# Altium integrated library Xilinx XC9500XL.IntLib: 169 symbols (part 5 of 12)
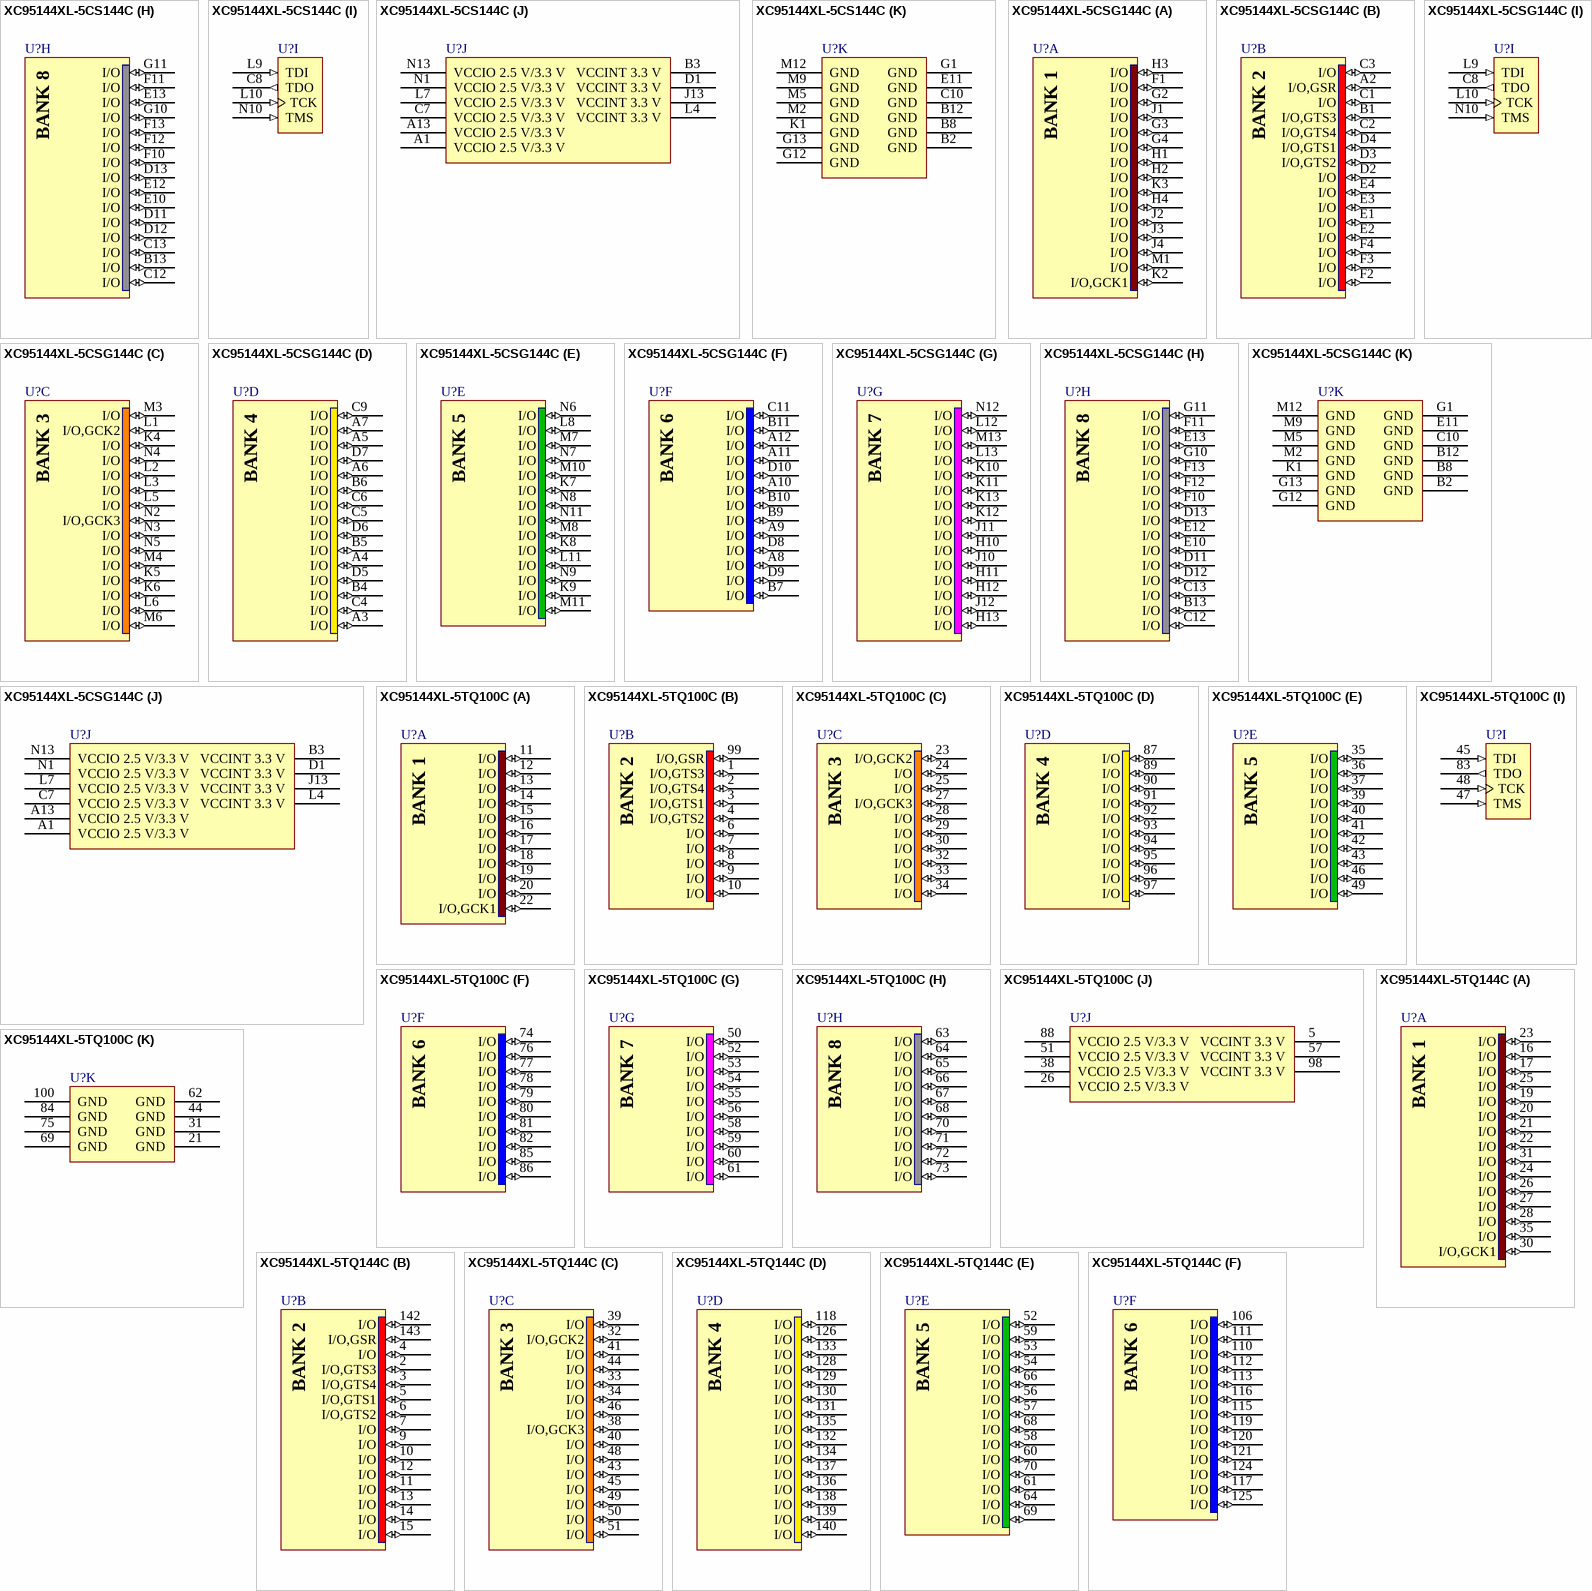
[diagram p62: symbols XC95144XL-5CS144C to XC95144XL-5TQ144C]

## XC95144XL-5CSG144C
designator U?
FastFLASH XC900XL, 3.3V High-Performance 144 Macrocell CPLD, 117 User I/Os, 144-Ball CSBGA, Speed Grade 5, Commercial Grade, Pb-Free; Published: 8-Sep-2006; LatestRevisionDate: 18-Nov-2009; LatestRevisionNote: Updated to datasheet version 2.5 May-2009.; DatasheetVersion: ver2.0, Apr-2007; PackageVersion: ver1.3, Jan-2007; PackageReference: CSG144; Publisher: Altium Limited; PackageDescription: 144-Ball Chip Scale Ball Grid Array (CSG144) - Pb-Free; Supplier 1: Digi-Key; Supplier Part Number 1: XC95144XL-5CSG144C-ND; Code_JEDEC: MO-216-BAG-2 (Depopulated); ComponentLink1Description: XC95144XL Datasheet; ComponentLink1URL: http://www.xilinx.com/support/documentation/data_sheets/ds056.pdf; ComponentLink2Description: CSG144 Package Drawing; ComponentLink2URL: http://www.xilinx.com/support/documentation/package_specs/cs144.pdf; ComponentLink3Description: XC9500XL Documents; ComponentLink3URL: http://www.xilinx.com/support/documentation/xc9500xl.htm; ComponentLink4Description: Xilinx.com Home; ComponentLink4URL: http://www.xilinx.com
footprint CSG144 (BGA, 144-Leads, Body 12x12mm, Pitch 0.8mm)
signal-integrity model XC95144XL_CS144 (XC9500XL)
part A pins: F1 I/O (io), G2 I/O (io), G3 I/O (io), G4 I/O (io), H1 I/O (io), H2 I/O (io), H3 I/O (io), H4 I/O (io), J1 I/O (io), J2 I/O (io), J3 I/O (io), J4 I/O (io), K2 I/O,GCK1 (io), K3 I/O (io), M1 I/O (io)
part B pins: A2 I/O,GSR (io), B1 I/O,GTS3 (io), C1 I/O (io), C2 I/O,GTS4 (io), C3 I/O (io), D2 I/O (io), D3 I/O,GTS2 (io), D4 I/O,GTS1 (io), E1 I/O (io), E2 I/O (io), E3 I/O (io), E4 I/O (io), F2 I/O (io), F3 I/O (io), F4 I/O (io)
part C pins: K4 I/O (io), K5 I/O (io), K6 I/O (io), L1 I/O,GCK2 (io), L2 I/O (io), L3 I/O (io), L5 I/O (io), L6 I/O (io), M3 I/O (io), M4 I/O (io), M6 I/O (io), N2 I/O,GCK3 (io), N3 I/O (io), N4 I/O (io), N5 I/O (io)
part D pins: A3 I/O (io), A4 I/O (io), A5 I/O (io), A6 I/O (io), A7 I/O (io), B4 I/O (io), B5 I/O (io), B6 I/O (io), C4 I/O (io), C5 I/O (io), C6 I/O (io), C9 I/O (io), D5 I/O (io), D6 I/O (io), D7 I/O (io)
part E pins: K7 I/O (io), K8 I/O (io), K9 I/O (io), L8 I/O (io), L11 I/O (io), M7 I/O (io), M8 I/O (io), M10 I/O (io), M11 I/O (io), N6 I/O (io), N7 I/O (io), N8 I/O (io), N9 I/O (io), N11 I/O (io)
part F pins: A8 I/O (io), A9 I/O (io), A10 I/O (io), A11 I/O (io), A12 I/O (io), B7 I/O (io), B9 I/O (io), B10 I/O (io), B11 I/O (io), C11 I/O (io), D8 I/O (io), D9 I/O (io), D10 I/O (io)
part G pins: H10 I/O (io), H11 I/O (io), H12 I/O (io), H13 I/O (io), J10 I/O (io), J11 I/O (io), J12 I/O (io), K10 I/O (io), K11 I/O (io), K12 I/O (io), K13 I/O (io), L12 I/O (io), L13 I/O (io), M13 I/O (io), N12 I/O (io)
part H pins: B13 I/O (io), C12 I/O (io), C13 I/O (io), D11 I/O (io), D12 I/O (io), D13 I/O (io), E10 I/O (io), E12 I/O (io), E13 I/O (io), F10 I/O (io), F11 I/O (io), F12 I/O (io), F13 I/O (io), G10 I/O (io), G11 I/O (io)
part I pins: C8 TDO (out), L9 TDI (in), L10 TCK (in), N10 TMS (in)
part J pins: A1 VCCIO 2.5 V/3.3 V (power), A13 VCCIO 2.5 V/3.3 V (power), B3 VCCINT 3.3 V (power), C7 VCCIO 2.5 V/3.3 V (power), D1 VCCINT 3.3 V (power), J13 VCCINT 3.3 V (power), L4 VCCINT 3.3 V (power), L7 VCCIO 2.5 V/3.3 V (power), N1 VCCIO 2.5 V/3.3 V (power), N13 VCCIO 2.5 V/3.3 V (power)
part K pins: B2 GND (power), B8 GND (power), B12 GND (power), C10 GND (power), E11 GND (power), G1 GND (power), G12 GND (power), G13 GND (power), K1 GND (power), M2 GND (power), M5 GND (power), M9 GND (power), M12 GND (power)
part A text: BANK 1
part B text: BANK 2
part C text: BANK 3
part D text: BANK 4
part E text: BANK 5
part F text: BANK 6
part G text: BANK 7
part H text: BANK 8

## XC95144XL-5TQ100C
designator U?
FastFLASH XC900XL, 3.3V High-Performance 144 Macrocell CPLD, 81 User I/Os, 100-Pin TQFP, Speed Grade 5, Commercial Grade; Published: 17-Sep-2003; LatestRevisionDate: 18-Nov-2009; LatestRevisionNote: Updated to datasheet version 2.5 May-2009.; DatasheetVersion: ver2.0, Apr-2007; PackageVersion: ver1.2, Jun-2004; PackageReference: TQ100; Publisher: Altium Limited; PackageDescription: 100-Pin Thin Quad Flat Pack (TQ100); Supplier 1: Digi-Key; Supplier Part Number 1: 122-1250-ND; ComponentLink1Description: XC95144XL Datasheet; ComponentLink1URL: http://www.xilinx.com/support/documentation/data_sheets/ds056.pdf; ComponentLink2Description: TQ100 Package Drawing; ComponentLink2URL: http://www.xilinx.com/support/documentation/package_specs/tq100.pdf; ComponentLink3Description: XC9500XL Documents; ComponentLink3URL: http://www.xilinx.com/support/documentation/xc9500xl.htm; ComponentLink4Description: Xilinx.com Home; ComponentLink4URL: http://www.xilinx.com
footprint TQ100_N (Thin QFP, 100-Leads, Body 14x14mm, Pitch 0.5mm, IPC Medium Density)
footprint TQ100_L (Thin QFP, 100-Leads, Body 14x14mm, Pitch 0.5mm, IPC High Density)
footprint TQ100_M (Thin QFP, 100-Leads, Body 14x14mm, Pitch 0.5mm, IPC Low Density)
signal-integrity model XC95144XL_TQ100 (XC9500XL)
part A pins: 11 I/O (io), 12 I/O (io), 13 I/O (io), 14 I/O (io), 15 I/O (io), 16 I/O (io), 17 I/O (io), 18 I/O (io), 19 I/O (io), 20 I/O (io), 22 I/O,GCK1 (io)
part B pins: 1 I/O,GTS3 (io), 2 I/O,GTS4 (io), 3 I/O,GTS1 (io), 4 I/O,GTS2 (io), 6 I/O (io), 7 I/O (io), 8 I/O (io), 9 I/O (io), 10 I/O (io), 99 I/O,GSR (io)
part C pins: 23 I/O,GCK2 (io), 24 I/O (io), 25 I/O (io), 27 I/O,GCK3 (io), 28 I/O (io), 29 I/O (io), 30 I/O (io), 32 I/O (io), 33 I/O (io), 34 I/O (io)
part D pins: 87 I/O (io), 89 I/O (io), 90 I/O (io), 91 I/O (io), 92 I/O (io), 93 I/O (io), 94 I/O (io), 95 I/O (io), 96 I/O (io), 97 I/O (io)
part E pins: 35 I/O (io), 36 I/O (io), 37 I/O (io), 39 I/O (io), 40 I/O (io), 41 I/O (io), 42 I/O (io), 43 I/O (io), 46 I/O (io), 49 I/O (io)
part F pins: 74 I/O (io), 76 I/O (io), 77 I/O (io), 78 I/O (io), 79 I/O (io), 80 I/O (io), 81 I/O (io), 82 I/O (io), 85 I/O (io), 86 I/O (io)
part G pins: 50 I/O (io), 52 I/O (io), 53 I/O (io), 54 I/O (io), 55 I/O (io), 56 I/O (io), 58 I/O (io), 59 I/O (io), 60 I/O (io), 61 I/O (io)
part H pins: 63 I/O (io), 64 I/O (io), 65 I/O (io), 66 I/O (io), 67 I/O (io), 68 I/O (io), 70 I/O (io), 71 I/O (io), 72 I/O (io), 73 I/O (io)
part I pins: 45 TDI (in), 47 TMS (in), 48 TCK (in), 83 TDO (out)
part J pins: 5 VCCINT 3.3 V (power), 26 VCCIO 2.5 V/3.3 V (power), 38 VCCIO 2.5 V/3.3 V (power), 51 VCCIO 2.5 V/3.3 V (power), 57 VCCINT 3.3 V (power), 88 VCCIO 2.5 V/3.3 V (power), 98 VCCINT 3.3 V (power)
part K pins: 21 GND (power), 31 GND (power), 44 GND (power), 62 GND (power), 69 GND (power), 75 GND (power), 84 GND (power), 100 GND (power)
part A text: BANK 1
part B text: BANK 2
part C text: BANK 3
part D text: BANK 4
part E text: BANK 5
part F text: BANK 6
part G text: BANK 7
part H text: BANK 8

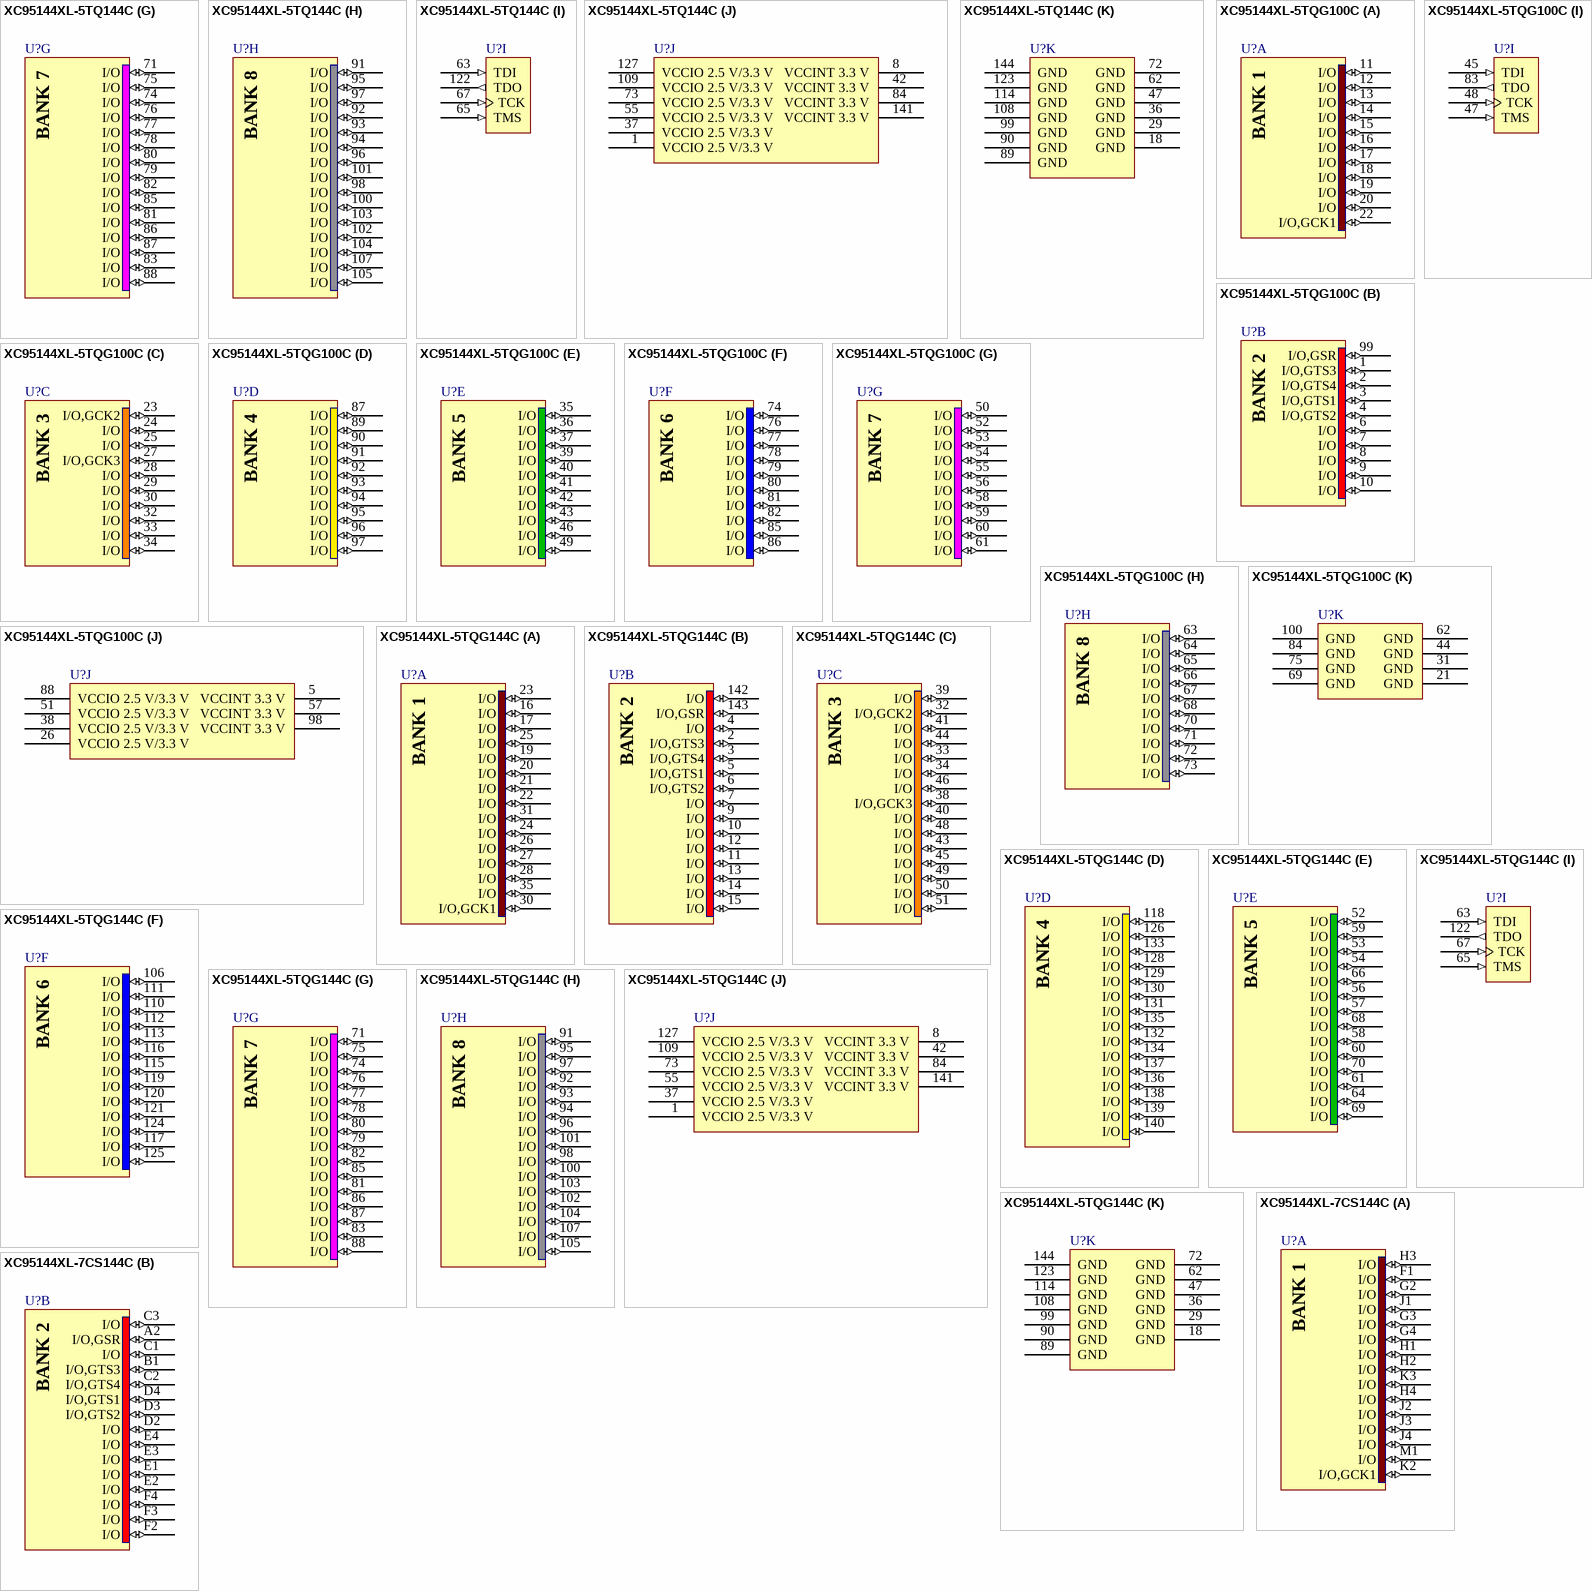
[diagram p20: symbols XC95144XL-5TQ144C to XC95144XL-7CS144C]

## XC95144XL-5TQ144C
designator U?
FastFLASH XC900XL, 3.3V High-Performance 144 Macrocell CPLD, 117 User I/Os, 144-Pin TQFP, Speed Grade 5, Commercial Grade; Published: 17-Sep-2003; LatestRevisionDate: 18-Nov-2009; LatestRevisionNote: Updated to datasheet version 2.5 May-2009.; DatasheetVersion: ver2.0, Apr-2007; PackageVersion: ver1.2, Jun-2004; PackageReference: TQ144; Publisher: Altium Limited; PackageDescription: 144-Pin Thin Quad Flat Pack (TQ144); Supplier 1: Digi-Key; Supplier Part Number 1: 122-1251-ND; Code_JEDEC: MS-026-BFB; ComponentLink1Description: XC95144XL Datasheet; ComponentLink1URL: http://www.xilinx.com/support/documentation/data_sheets/ds056.pdf; ComponentLink2Description: TQ144 Package Drawing; ComponentLink2URL: http://www.xilinx.com/support/documentation/package_specs/tq144.pdf; ComponentLink3Description: XC9500XL Documents; ComponentLink3URL: http://www.xilinx.com/support/documentation/xc9500xl.htm; ComponentLink4Description: Xilinx.com Home; ComponentLink4URL: http://www.xilinx.com
footprint TQ144_N (Thin QFP, 144-Leads, Body 20x20mm, Pitch 0.5mm, IPC Medium Density)
footprint TQ144_L (Thin QFP, 144-Leads, Body 20x20mm, Pitch 0.5mm, IPC High Density)
footprint TQ144_M (Thin QFP, 144-Leads, Body 20x20mm, Pitch 0.5mm, IPC Low Density)
signal-integrity model XC95144XL_TQ144 (XC9500XL)
part A pins: 16 I/O (io), 17 I/O (io), 19 I/O (io), 20 I/O (io), 21 I/O (io), 22 I/O (io), 23 I/O (io), 24 I/O (io), 25 I/O (io), 26 I/O (io), 27 I/O (io), 28 I/O (io), 30 I/O,GCK1 (io), 31 I/O (io), 35 I/O (io)
part B pins: 2 I/O,GTS3 (io), 3 I/O,GTS4 (io), 4 I/O (io), 5 I/O,GTS1 (io), 6 I/O,GTS2 (io), 7 I/O (io), 9 I/O (io), 10 I/O (io), 11 I/O (io), 12 I/O (io), 13 I/O (io), 14 I/O (io), 15 I/O (io), 142 I/O (io), 143 I/O,GSR (io)
part C pins: 32 I/O,GCK2 (io), 33 I/O (io), 34 I/O (io), 38 I/O,GCK3 (io), 39 I/O (io), 40 I/O (io), 41 I/O (io), 43 I/O (io), 44 I/O (io), 45 I/O (io), 46 I/O (io), 48 I/O (io), 49 I/O (io), 50 I/O (io), 51 I/O (io)
part D pins: 118 I/O (io), 126 I/O (io), 128 I/O (io), 129 I/O (io), 130 I/O (io), 131 I/O (io), 132 I/O (io), 133 I/O (io), 134 I/O (io), 135 I/O (io), 136 I/O (io), 137 I/O (io), 138 I/O (io), 139 I/O (io), 140 I/O (io)
part E pins: 52 I/O (io), 53 I/O (io), 54 I/O (io), 56 I/O (io), 57 I/O (io), 58 I/O (io), 59 I/O (io), 60 I/O (io), 61 I/O (io), 64 I/O (io), 66 I/O (io), 68 I/O (io), 69 I/O (io), 70 I/O (io)
part F pins: 106 I/O (io), 110 I/O (io), 111 I/O (io), 112 I/O (io), 113 I/O (io), 115 I/O (io), 116 I/O (io), 117 I/O (io), 119 I/O (io), 120 I/O (io), 121 I/O (io), 124 I/O (io), 125 I/O (io)
part G pins: 71 I/O (io), 74 I/O (io), 75 I/O (io), 76 I/O (io), 77 I/O (io), 78 I/O (io), 79 I/O (io), 80 I/O (io), 81 I/O (io), 82 I/O (io), 83 I/O (io), 85 I/O (io), 86 I/O (io), 87 I/O (io), 88 I/O (io)
part H pins: 91 I/O (io), 92 I/O (io), 93 I/O (io), 94 I/O (io), 95 I/O (io), 96 I/O (io), 97 I/O (io), 98 I/O (io), 100 I/O (io), 101 I/O (io), 102 I/O (io), 103 I/O (io), 104 I/O (io), 105 I/O (io), 107 I/O (io)
part I pins: 63 TDI (in), 65 TMS (in), 67 TCK (in), 122 TDO (out)
part J pins: 1 VCCIO 2.5 V/3.3 V (power), 8 VCCINT 3.3 V (power), 37 VCCIO 2.5 V/3.3 V (power), 42 VCCINT 3.3 V (power), 55 VCCIO 2.5 V/3.3 V (power), 73 VCCIO 2.5 V/3.3 V (power), 84 VCCINT 3.3 V (power), 109 VCCIO 2.5 V/3.3 V (power), 127 VCCIO 2.5 V/3.3 V (power), 141 VCCINT 3.3 V (power)
part K pins: 18 GND (power), 29 GND (power), 36 GND (power), 47 GND (power), 62 GND (power), 72 GND (power), 89 GND (power), 90 GND (power), 99 GND (power), 108 GND (power), 114 GND (power), 123 GND (power), 144 GND (power)
part A text: BANK 1
part B text: BANK 2
part C text: BANK 3
part D text: BANK 4
part E text: BANK 5
part F text: BANK 6
part G text: BANK 7
part H text: BANK 8

## XC95144XL-5TQG100C
designator U?
FastFLASH XC900XL, 3.3V High-Performance 144 Macrocell CPLD, 81 User I/Os, 100-Pin TQFP, Speed Grade 5, Commercial Grade, Pb-Free; Published: 8-Sep-2006; LatestRevisionDate: 18-Nov-2009; LatestRevisionNote: Updated to datasheet version 2.5 May-2009.; DatasheetVersion: ver2.0, Apr-2007; PackageVersion: ver1.2, Jun-2004; PackageReference: TQG100; Publisher: Altium Limited; PackageDescription: 100-Pin Thin Quad Flat Pack (TQG100) - Pb-Free; Supplier 1: Digi-Key; Supplier Part Number 1: 122-1376-ND; ComponentLink1Description: XC95144XL Datasheet; ComponentLink1URL: http://www.xilinx.com/support/documentation/data_sheets/ds056.pdf; ComponentLink2Description: TQG100 Package Drawing; ComponentLink2URL: http://www.xilinx.com/support/documentation/package_specs/tq100.pdf; ComponentLink3Description: XC9500XL Documents; ComponentLink3URL: http://www.xilinx.com/support/documentation/xc9500xl.htm; ComponentLink4Description: Xilinx.com Home; ComponentLink4URL: http://www.xilinx.com
footprint TQG100_N (Thin QFP, 100-Leads, Body 14x14mm, Pitch 0.5mm, IPC Medium Density)
footprint TQG100_L (Thin QFP, 100-Leads, Body 14x14mm, Pitch 0.5mm, IPC High Density)
footprint TQG100_M (Thin QFP, 100-Leads, Body 14x14mm, Pitch 0.5mm, IPC Low Density)
signal-integrity model XC95144XL_TQ100 (XC9500XL)
part A pins: 11 I/O (io), 12 I/O (io), 13 I/O (io), 14 I/O (io), 15 I/O (io), 16 I/O (io), 17 I/O (io), 18 I/O (io), 19 I/O (io), 20 I/O (io), 22 I/O,GCK1 (io)
part B pins: 1 I/O,GTS3 (io), 2 I/O,GTS4 (io), 3 I/O,GTS1 (io), 4 I/O,GTS2 (io), 6 I/O (io), 7 I/O (io), 8 I/O (io), 9 I/O (io), 10 I/O (io), 99 I/O,GSR (io)
part C pins: 23 I/O,GCK2 (io), 24 I/O (io), 25 I/O (io), 27 I/O,GCK3 (io), 28 I/O (io), 29 I/O (io), 30 I/O (io), 32 I/O (io), 33 I/O (io), 34 I/O (io)
part D pins: 87 I/O (io), 89 I/O (io), 90 I/O (io), 91 I/O (io), 92 I/O (io), 93 I/O (io), 94 I/O (io), 95 I/O (io), 96 I/O (io), 97 I/O (io)
part E pins: 35 I/O (io), 36 I/O (io), 37 I/O (io), 39 I/O (io), 40 I/O (io), 41 I/O (io), 42 I/O (io), 43 I/O (io), 46 I/O (io), 49 I/O (io)
part F pins: 74 I/O (io), 76 I/O (io), 77 I/O (io), 78 I/O (io), 79 I/O (io), 80 I/O (io), 81 I/O (io), 82 I/O (io), 85 I/O (io), 86 I/O (io)
part G pins: 50 I/O (io), 52 I/O (io), 53 I/O (io), 54 I/O (io), 55 I/O (io), 56 I/O (io), 58 I/O (io), 59 I/O (io), 60 I/O (io), 61 I/O (io)
part H pins: 63 I/O (io), 64 I/O (io), 65 I/O (io), 66 I/O (io), 67 I/O (io), 68 I/O (io), 70 I/O (io), 71 I/O (io), 72 I/O (io), 73 I/O (io)
part I pins: 45 TDI (in), 47 TMS (in), 48 TCK (in), 83 TDO (out)
part J pins: 5 VCCINT 3.3 V (power), 26 VCCIO 2.5 V/3.3 V (power), 38 VCCIO 2.5 V/3.3 V (power), 51 VCCIO 2.5 V/3.3 V (power), 57 VCCINT 3.3 V (power), 88 VCCIO 2.5 V/3.3 V (power), 98 VCCINT 3.3 V (power)
part K pins: 21 GND (power), 31 GND (power), 44 GND (power), 62 GND (power), 69 GND (power), 75 GND (power), 84 GND (power), 100 GND (power)
part A text: BANK 1
part B text: BANK 2
part C text: BANK 3
part D text: BANK 4
part E text: BANK 5
part F text: BANK 6
part G text: BANK 7
part H text: BANK 8

## XC95144XL-5TQG144C
designator U?
FastFLASH XC900XL, 3.3V High-Performance 144 Macrocell CPLD, 117 User I/Os, 144-Pin TQFP, Speed Grade 5, Commercial Grade, Pb-Free; Published: 8-Sep-2006; LatestRevisionDate: 18-Nov-2009; LatestRevisionNote: Updated to datasheet version 2.5 May-2009.; DatasheetVersion: ver2.0, Apr-2007; PackageVersion: ver1.2, Jun-2004; PackageReference: TQG144; Publisher: Altium Limited; PackageDescription: 144-Pin Thin Quad Flat Pack (TQG144) - Pb-Free; Supplier 1: Digi-Key; Supplier Part Number 1: 122-1377-ND; Code_JEDEC: MS-026-BFB; ComponentLink1Description: XC95144XL Datasheet; ComponentLink1URL: http://www.xilinx.com/support/documentation/data_sheets/ds056.pdf; ComponentLink2Description: TQG144 Package Drawing; ComponentLink2URL: http://www.xilinx.com/support/documentation/package_specs/tq144.pdf; ComponentLink3Description: XC9500XL Documents; ComponentLink3URL: http://www.xilinx.com/support/documentation/xc9500xl.htm; ComponentLink4Description: Xilinx.com Home; ComponentLink4URL: http://www.xilinx.com
footprint TQG144_N (Thin QFP, 144-Leads, Body 20x20mm, Pitch 0.5mm, IPC Medium Density)
footprint TQG144_L (Thin QFP, 144-Leads, Body 20x20mm, Pitch 0.5mm, IPC High Density)
footprint TQG144_M (Thin QFP, 144-Leads, Body 20x20mm, Pitch 0.5mm, IPC Low Density)
signal-integrity model XC95144XL_TQ144 (XC9500XL)
part A pins: 16 I/O (io), 17 I/O (io), 19 I/O (io), 20 I/O (io), 21 I/O (io), 22 I/O (io), 23 I/O (io), 24 I/O (io), 25 I/O (io), 26 I/O (io), 27 I/O (io), 28 I/O (io), 30 I/O,GCK1 (io), 31 I/O (io), 35 I/O (io)
part B pins: 2 I/O,GTS3 (io), 3 I/O,GTS4 (io), 4 I/O (io), 5 I/O,GTS1 (io), 6 I/O,GTS2 (io), 7 I/O (io), 9 I/O (io), 10 I/O (io), 11 I/O (io), 12 I/O (io), 13 I/O (io), 14 I/O (io), 15 I/O (io), 142 I/O (io), 143 I/O,GSR (io)
part C pins: 32 I/O,GCK2 (io), 33 I/O (io), 34 I/O (io), 38 I/O,GCK3 (io), 39 I/O (io), 40 I/O (io), 41 I/O (io), 43 I/O (io), 44 I/O (io), 45 I/O (io), 46 I/O (io), 48 I/O (io), 49 I/O (io), 50 I/O (io), 51 I/O (io)
part D pins: 118 I/O (io), 126 I/O (io), 128 I/O (io), 129 I/O (io), 130 I/O (io), 131 I/O (io), 132 I/O (io), 133 I/O (io), 134 I/O (io), 135 I/O (io), 136 I/O (io), 137 I/O (io), 138 I/O (io), 139 I/O (io), 140 I/O (io)
part E pins: 52 I/O (io), 53 I/O (io), 54 I/O (io), 56 I/O (io), 57 I/O (io), 58 I/O (io), 59 I/O (io), 60 I/O (io), 61 I/O (io), 64 I/O (io), 66 I/O (io), 68 I/O (io), 69 I/O (io), 70 I/O (io)
part F pins: 106 I/O (io), 110 I/O (io), 111 I/O (io), 112 I/O (io), 113 I/O (io), 115 I/O (io), 116 I/O (io), 117 I/O (io), 119 I/O (io), 120 I/O (io), 121 I/O (io), 124 I/O (io), 125 I/O (io)
part G pins: 71 I/O (io), 74 I/O (io), 75 I/O (io), 76 I/O (io), 77 I/O (io), 78 I/O (io), 79 I/O (io), 80 I/O (io), 81 I/O (io), 82 I/O (io), 83 I/O (io), 85 I/O (io), 86 I/O (io), 87 I/O (io), 88 I/O (io)
part H pins: 91 I/O (io), 92 I/O (io), 93 I/O (io), 94 I/O (io), 95 I/O (io), 96 I/O (io), 97 I/O (io), 98 I/O (io), 100 I/O (io), 101 I/O (io), 102 I/O (io), 103 I/O (io), 104 I/O (io), 105 I/O (io), 107 I/O (io)
part I pins: 63 TDI (in), 65 TMS (in), 67 TCK (in), 122 TDO (out)
part J pins: 1 VCCIO 2.5 V/3.3 V (power), 8 VCCINT 3.3 V (power), 37 VCCIO 2.5 V/3.3 V (power), 42 VCCINT 3.3 V (power), 55 VCCIO 2.5 V/3.3 V (power), 73 VCCIO 2.5 V/3.3 V (power), 84 VCCINT 3.3 V (power), 109 VCCIO 2.5 V/3.3 V (power), 127 VCCIO 2.5 V/3.3 V (power), 141 VCCINT 3.3 V (power)
part K pins: 18 GND (power), 29 GND (power), 36 GND (power), 47 GND (power), 62 GND (power), 72 GND (power), 89 GND (power), 90 GND (power), 99 GND (power), 108 GND (power), 114 GND (power), 123 GND (power), 144 GND (power)
part A text: BANK 1
part B text: BANK 2
part C text: BANK 3
part D text: BANK 4
part E text: BANK 5
part F text: BANK 6
part G text: BANK 7
part H text: BANK 8

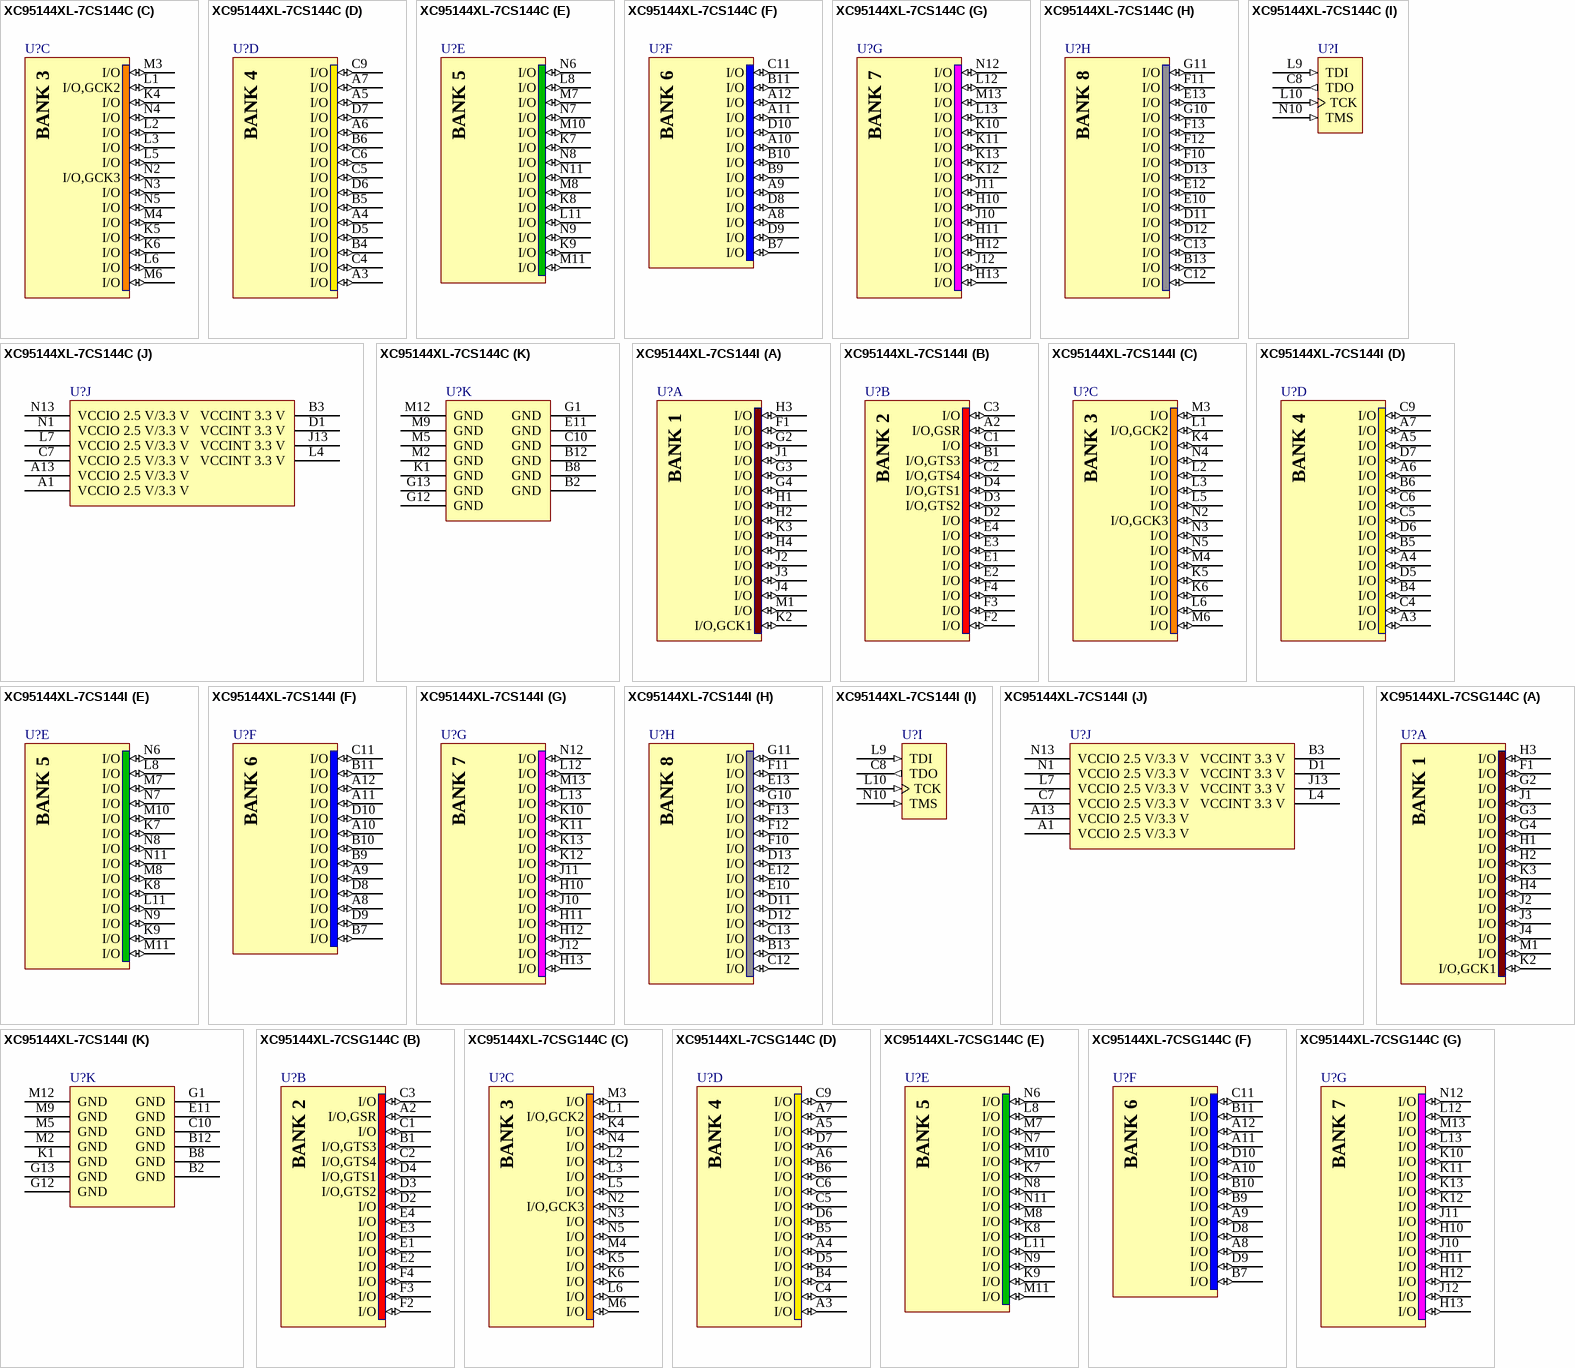
[diagram p21: symbols XC95144XL-7CS144C to XC95144XL-7CSG144C]

## XC95144XL-7CS144C
designator U?
FastFLASH XC900XL, 3.3V High-Performance 144 Macrocell CPLD, 117 User I/Os, 144-Ball CSBGA, Speed Grade 7, Commercial Grade; Published: 17-Sep-2003; LatestRevisionDate: 18-Nov-2009; LatestRevisionNote: Updated to datasheet version 2.5 May-2009.; DatasheetVersion: ver2.0, Apr-2007; PackageVersion: ver1.3, Jan-2007; PackageReference: CS144; Publisher: Altium Limited; PackageDescription: 144-Ball Chip Scale Ball Grid Array (CS144); Supplier 1: Digi-Key; Supplier Part Number 1: XC95144XL-7CS144C-ND; Code_JEDEC: MO-216-BAG-2 (Depopulated); ComponentLink1Description: XC95144XL Datasheet; ComponentLink1URL: http://www.xilinx.com/support/documentation/data_sheets/ds056.pdf; ComponentLink2Description: CS144 Package Drawing; ComponentLink2URL: http://www.xilinx.com/support/documentation/package_specs/cs144.pdf; ComponentLink3Description: XC9500XL Documents; ComponentLink3URL: http://www.xilinx.com/support/documentation/xc9500xl.htm; ComponentLink4Description: Xilinx.com Home; ComponentLink4URL: http://www.xilinx.com
footprint CS144 (BGA, 144-Leads, Body 12x12mm, Pitch 0.8mm)
signal-integrity model XC95144XL_CS144 (XC9500XL)
part A pins: F1 I/O (io), G2 I/O (io), G3 I/O (io), G4 I/O (io), H1 I/O (io), H2 I/O (io), H3 I/O (io), H4 I/O (io), J1 I/O (io), J2 I/O (io), J3 I/O (io), J4 I/O (io), K2 I/O,GCK1 (io), K3 I/O (io), M1 I/O (io)
part B pins: A2 I/O,GSR (io), B1 I/O,GTS3 (io), C1 I/O (io), C2 I/O,GTS4 (io), C3 I/O (io), D2 I/O (io), D3 I/O,GTS2 (io), D4 I/O,GTS1 (io), E1 I/O (io), E2 I/O (io), E3 I/O (io), E4 I/O (io), F2 I/O (io), F3 I/O (io), F4 I/O (io)
part C pins: K4 I/O (io), K5 I/O (io), K6 I/O (io), L1 I/O,GCK2 (io), L2 I/O (io), L3 I/O (io), L5 I/O (io), L6 I/O (io), M3 I/O (io), M4 I/O (io), M6 I/O (io), N2 I/O,GCK3 (io), N3 I/O (io), N4 I/O (io), N5 I/O (io)
part D pins: A3 I/O (io), A4 I/O (io), A5 I/O (io), A6 I/O (io), A7 I/O (io), B4 I/O (io), B5 I/O (io), B6 I/O (io), C4 I/O (io), C5 I/O (io), C6 I/O (io), C9 I/O (io), D5 I/O (io), D6 I/O (io), D7 I/O (io)
part E pins: K7 I/O (io), K8 I/O (io), K9 I/O (io), L8 I/O (io), L11 I/O (io), M7 I/O (io), M8 I/O (io), M10 I/O (io), M11 I/O (io), N6 I/O (io), N7 I/O (io), N8 I/O (io), N9 I/O (io), N11 I/O (io)
part F pins: A8 I/O (io), A9 I/O (io), A10 I/O (io), A11 I/O (io), A12 I/O (io), B7 I/O (io), B9 I/O (io), B10 I/O (io), B11 I/O (io), C11 I/O (io), D8 I/O (io), D9 I/O (io), D10 I/O (io)
part G pins: H10 I/O (io), H11 I/O (io), H12 I/O (io), H13 I/O (io), J10 I/O (io), J11 I/O (io), J12 I/O (io), K10 I/O (io), K11 I/O (io), K12 I/O (io), K13 I/O (io), L12 I/O (io), L13 I/O (io), M13 I/O (io), N12 I/O (io)
part H pins: B13 I/O (io), C12 I/O (io), C13 I/O (io), D11 I/O (io), D12 I/O (io), D13 I/O (io), E10 I/O (io), E12 I/O (io), E13 I/O (io), F10 I/O (io), F11 I/O (io), F12 I/O (io), F13 I/O (io), G10 I/O (io), G11 I/O (io)
part I pins: C8 TDO (out), L9 TDI (in), L10 TCK (in), N10 TMS (in)
part J pins: A1 VCCIO 2.5 V/3.3 V (power), A13 VCCIO 2.5 V/3.3 V (power), B3 VCCINT 3.3 V (power), C7 VCCIO 2.5 V/3.3 V (power), D1 VCCINT 3.3 V (power), J13 VCCINT 3.3 V (power), L4 VCCINT 3.3 V (power), L7 VCCIO 2.5 V/3.3 V (power), N1 VCCIO 2.5 V/3.3 V (power), N13 VCCIO 2.5 V/3.3 V (power)
part K pins: B2 GND (power), B8 GND (power), B12 GND (power), C10 GND (power), E11 GND (power), G1 GND (power), G12 GND (power), G13 GND (power), K1 GND (power), M2 GND (power), M5 GND (power), M9 GND (power), M12 GND (power)
part A text: BANK 1
part B text: BANK 2
part C text: BANK 3
part D text: BANK 4
part E text: BANK 5
part F text: BANK 6
part G text: BANK 7
part H text: BANK 8

## XC95144XL-7CS144I
designator U?
FastFLASH XC900XL, 3.3V High-Performance 144 Macrocell CPLD, 117 User I/Os, 144-Ball CSBGA, Speed Grade 7, Industrial Grade; Published: 17-Sep-2003; LatestRevisionDate: 18-Nov-2009; LatestRevisionNote: Updated to datasheet version 2.5 May-2009.; DatasheetVersion: ver2.0, Apr-2007; PackageVersion: ver1.3, Jan-2007; PackageReference: CS144; Publisher: Altium Limited; PackageDescription: 144-Ball Chip Scale Ball Grid Array (CS144); Code_JEDEC: MO-216-BAG-2 (Depopulated); ComponentLink1Description: XC95144XL Datasheet; ComponentLink1URL: http://www.xilinx.com/support/documentation/data_sheets/ds056.pdf; ComponentLink2Description: CS144 Package Drawing; ComponentLink2URL: http://www.xilinx.com/support/documentation/package_specs/cs144.pdf; ComponentLink3Description: XC9500XL Documents; ComponentLink3URL: http://www.xilinx.com/support/documentation/xc9500xl.htm; ComponentLink4Description: Xilinx.com Home; ComponentLink4URL: http://www.xilinx.com
footprint CS144 (BGA, 144-Leads, Body 12x12mm, Pitch 0.8mm)
signal-integrity model XC95144XL_CS144 (XC9500XL)
part A pins: F1 I/O (io), G2 I/O (io), G3 I/O (io), G4 I/O (io), H1 I/O (io), H2 I/O (io), H3 I/O (io), H4 I/O (io), J1 I/O (io), J2 I/O (io), J3 I/O (io), J4 I/O (io), K2 I/O,GCK1 (io), K3 I/O (io), M1 I/O (io)
part B pins: A2 I/O,GSR (io), B1 I/O,GTS3 (io), C1 I/O (io), C2 I/O,GTS4 (io), C3 I/O (io), D2 I/O (io), D3 I/O,GTS2 (io), D4 I/O,GTS1 (io), E1 I/O (io), E2 I/O (io), E3 I/O (io), E4 I/O (io), F2 I/O (io), F3 I/O (io), F4 I/O (io)
part C pins: K4 I/O (io), K5 I/O (io), K6 I/O (io), L1 I/O,GCK2 (io), L2 I/O (io), L3 I/O (io), L5 I/O (io), L6 I/O (io), M3 I/O (io), M4 I/O (io), M6 I/O (io), N2 I/O,GCK3 (io), N3 I/O (io), N4 I/O (io), N5 I/O (io)
part D pins: A3 I/O (io), A4 I/O (io), A5 I/O (io), A6 I/O (io), A7 I/O (io), B4 I/O (io), B5 I/O (io), B6 I/O (io), C4 I/O (io), C5 I/O (io), C6 I/O (io), C9 I/O (io), D5 I/O (io), D6 I/O (io), D7 I/O (io)
part E pins: K7 I/O (io), K8 I/O (io), K9 I/O (io), L8 I/O (io), L11 I/O (io), M7 I/O (io), M8 I/O (io), M10 I/O (io), M11 I/O (io), N6 I/O (io), N7 I/O (io), N8 I/O (io), N9 I/O (io), N11 I/O (io)
part F pins: A8 I/O (io), A9 I/O (io), A10 I/O (io), A11 I/O (io), A12 I/O (io), B7 I/O (io), B9 I/O (io), B10 I/O (io), B11 I/O (io), C11 I/O (io), D8 I/O (io), D9 I/O (io), D10 I/O (io)
part G pins: H10 I/O (io), H11 I/O (io), H12 I/O (io), H13 I/O (io), J10 I/O (io), J11 I/O (io), J12 I/O (io), K10 I/O (io), K11 I/O (io), K12 I/O (io), K13 I/O (io), L12 I/O (io), L13 I/O (io), M13 I/O (io), N12 I/O (io)
part H pins: B13 I/O (io), C12 I/O (io), C13 I/O (io), D11 I/O (io), D12 I/O (io), D13 I/O (io), E10 I/O (io), E12 I/O (io), E13 I/O (io), F10 I/O (io), F11 I/O (io), F12 I/O (io), F13 I/O (io), G10 I/O (io), G11 I/O (io)
part I pins: C8 TDO (out), L9 TDI (in), L10 TCK (in), N10 TMS (in)
part J pins: A1 VCCIO 2.5 V/3.3 V (power), A13 VCCIO 2.5 V/3.3 V (power), B3 VCCINT 3.3 V (power), C7 VCCIO 2.5 V/3.3 V (power), D1 VCCINT 3.3 V (power), J13 VCCINT 3.3 V (power), L4 VCCINT 3.3 V (power), L7 VCCIO 2.5 V/3.3 V (power), N1 VCCIO 2.5 V/3.3 V (power), N13 VCCIO 2.5 V/3.3 V (power)
part K pins: B2 GND (power), B8 GND (power), B12 GND (power), C10 GND (power), E11 GND (power), G1 GND (power), G12 GND (power), G13 GND (power), K1 GND (power), M2 GND (power), M5 GND (power), M9 GND (power), M12 GND (power)
part A text: BANK 1
part B text: BANK 2
part C text: BANK 3
part D text: BANK 4
part E text: BANK 5
part F text: BANK 6
part G text: BANK 7
part H text: BANK 8

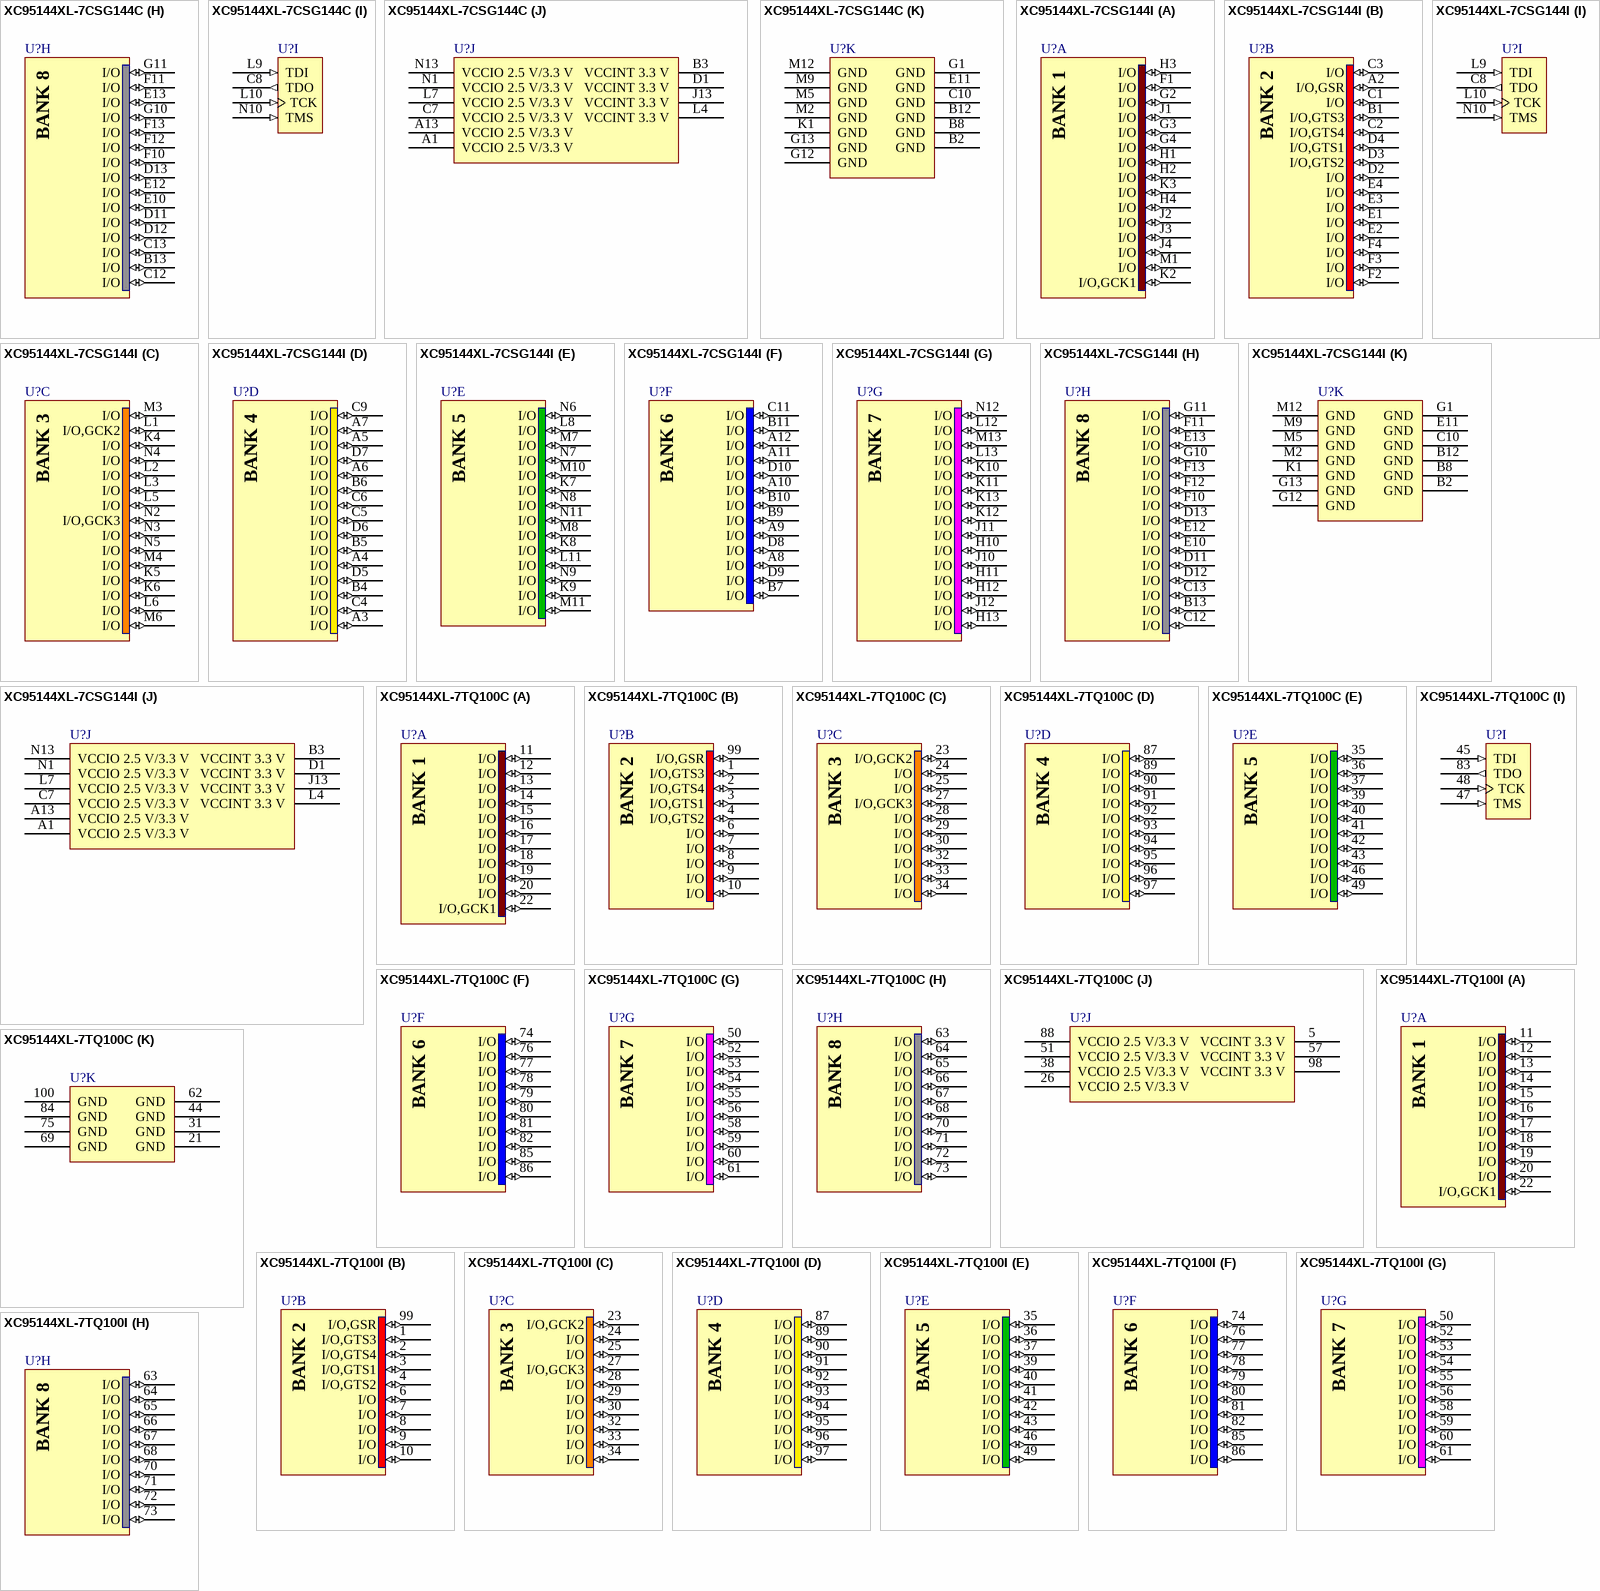
[diagram p22: symbols XC95144XL-7CSG144C to XC95144XL-7TQ100I]

## XC95144XL-7CSG144C
designator U?
FastFLASH XC900XL, 3.3V High-Performance 144 Macrocell CPLD, 117 User I/Os, 144-Ball CSBGA, Speed Grade 7, Commercial Grade, Pb-Free; Published: 8-Sep-2006; LatestRevisionDate: 18-Nov-2009; LatestRevisionNote: Updated to datasheet version 2.5 May-2009.; DatasheetVersion: ver2.0, Apr-2007; PackageVersion: ver1.3, Jan-2007; PackageReference: CSG144; Publisher: Altium Limited; PackageDescription: 144-Ball Chip Scale Ball Grid Array (CSG144) - Pb-Free; Supplier 1: Digi-Key; Supplier Part Number 1: XC95144XL-7CSG144C-ND; Code_JEDEC: MO-216-BAG-2 (Depopulated); ComponentLink1Description: XC95144XL Datasheet; ComponentLink1URL: http://www.xilinx.com/support/documentation/data_sheets/ds056.pdf; ComponentLink2Description: CSG144 Package Drawing; ComponentLink2URL: http://www.xilinx.com/support/documentation/package_specs/cs144.pdf; ComponentLink3Description: XC9500XL Documents; ComponentLink3URL: http://www.xilinx.com/support/documentation/xc9500xl.htm; ComponentLink4Description: Xilinx.com Home; ComponentLink4URL: http://www.xilinx.com
footprint CSG144 (BGA, 144-Leads, Body 12x12mm, Pitch 0.8mm)
signal-integrity model XC95144XL_CS144 (XC9500XL)
part A pins: F1 I/O (io), G2 I/O (io), G3 I/O (io), G4 I/O (io), H1 I/O (io), H2 I/O (io), H3 I/O (io), H4 I/O (io), J1 I/O (io), J2 I/O (io), J3 I/O (io), J4 I/O (io), K2 I/O,GCK1 (io), K3 I/O (io), M1 I/O (io)
part B pins: A2 I/O,GSR (io), B1 I/O,GTS3 (io), C1 I/O (io), C2 I/O,GTS4 (io), C3 I/O (io), D2 I/O (io), D3 I/O,GTS2 (io), D4 I/O,GTS1 (io), E1 I/O (io), E2 I/O (io), E3 I/O (io), E4 I/O (io), F2 I/O (io), F3 I/O (io), F4 I/O (io)
part C pins: K4 I/O (io), K5 I/O (io), K6 I/O (io), L1 I/O,GCK2 (io), L2 I/O (io), L3 I/O (io), L5 I/O (io), L6 I/O (io), M3 I/O (io), M4 I/O (io), M6 I/O (io), N2 I/O,GCK3 (io), N3 I/O (io), N4 I/O (io), N5 I/O (io)
part D pins: A3 I/O (io), A4 I/O (io), A5 I/O (io), A6 I/O (io), A7 I/O (io), B4 I/O (io), B5 I/O (io), B6 I/O (io), C4 I/O (io), C5 I/O (io), C6 I/O (io), C9 I/O (io), D5 I/O (io), D6 I/O (io), D7 I/O (io)
part E pins: K7 I/O (io), K8 I/O (io), K9 I/O (io), L8 I/O (io), L11 I/O (io), M7 I/O (io), M8 I/O (io), M10 I/O (io), M11 I/O (io), N6 I/O (io), N7 I/O (io), N8 I/O (io), N9 I/O (io), N11 I/O (io)
part F pins: A8 I/O (io), A9 I/O (io), A10 I/O (io), A11 I/O (io), A12 I/O (io), B7 I/O (io), B9 I/O (io), B10 I/O (io), B11 I/O (io), C11 I/O (io), D8 I/O (io), D9 I/O (io), D10 I/O (io)
part G pins: H10 I/O (io), H11 I/O (io), H12 I/O (io), H13 I/O (io), J10 I/O (io), J11 I/O (io), J12 I/O (io), K10 I/O (io), K11 I/O (io), K12 I/O (io), K13 I/O (io), L12 I/O (io), L13 I/O (io), M13 I/O (io), N12 I/O (io)
part H pins: B13 I/O (io), C12 I/O (io), C13 I/O (io), D11 I/O (io), D12 I/O (io), D13 I/O (io), E10 I/O (io), E12 I/O (io), E13 I/O (io), F10 I/O (io), F11 I/O (io), F12 I/O (io), F13 I/O (io), G10 I/O (io), G11 I/O (io)
part I pins: C8 TDO (out), L9 TDI (in), L10 TCK (in), N10 TMS (in)
part J pins: A1 VCCIO 2.5 V/3.3 V (power), A13 VCCIO 2.5 V/3.3 V (power), B3 VCCINT 3.3 V (power), C7 VCCIO 2.5 V/3.3 V (power), D1 VCCINT 3.3 V (power), J13 VCCINT 3.3 V (power), L4 VCCINT 3.3 V (power), L7 VCCIO 2.5 V/3.3 V (power), N1 VCCIO 2.5 V/3.3 V (power), N13 VCCIO 2.5 V/3.3 V (power)
part K pins: B2 GND (power), B8 GND (power), B12 GND (power), C10 GND (power), E11 GND (power), G1 GND (power), G12 GND (power), G13 GND (power), K1 GND (power), M2 GND (power), M5 GND (power), M9 GND (power), M12 GND (power)
part A text: BANK 1
part B text: BANK 2
part C text: BANK 3
part D text: BANK 4
part E text: BANK 5
part F text: BANK 6
part G text: BANK 7
part H text: BANK 8

## XC95144XL-7CSG144I
designator U?
FastFLASH XC900XL, 3.3V High-Performance 144 Macrocell CPLD, 117 User I/Os, 144-Ball CSBGA, Speed Grade 7, Industrial Grade, Pb-Free; Published: 8-Sep-2006; LatestRevisionDate: 18-Nov-2009; LatestRevisionNote: Updated to datasheet version 2.5 May-2009.; DatasheetVersion: ver2.0, Apr-2007; PackageVersion: ver1.3, Jan-2007; PackageReference: CSG144; Publisher: Altium Limited; PackageDescription: 144-Ball Chip Scale Ball Grid Array (CSG144) - Pb-Free; Supplier 1: Digi-Key; Supplier Part Number 1: XC95144XL-7CSG144I-ND; Code_JEDEC: MO-216-BAG-2 (Depopulated); ComponentLink1Description: XC95144XL Datasheet; ComponentLink1URL: http://www.xilinx.com/support/documentation/data_sheets/ds056.pdf; ComponentLink2Description: CSG144 Package Drawing; ComponentLink2URL: http://www.xilinx.com/support/documentation/package_specs/cs144.pdf; ComponentLink3Description: XC9500XL Documents; ComponentLink3URL: http://www.xilinx.com/support/documentation/xc9500xl.htm; ComponentLink4Description: Xilinx.com Home; ComponentLink4URL: http://www.xilinx.com
footprint CSG144 (BGA, 144-Leads, Body 12x12mm, Pitch 0.8mm)
signal-integrity model XC95144XL_CS144 (XC9500XL)
part A pins: F1 I/O (io), G2 I/O (io), G3 I/O (io), G4 I/O (io), H1 I/O (io), H2 I/O (io), H3 I/O (io), H4 I/O (io), J1 I/O (io), J2 I/O (io), J3 I/O (io), J4 I/O (io), K2 I/O,GCK1 (io), K3 I/O (io), M1 I/O (io)
part B pins: A2 I/O,GSR (io), B1 I/O,GTS3 (io), C1 I/O (io), C2 I/O,GTS4 (io), C3 I/O (io), D2 I/O (io), D3 I/O,GTS2 (io), D4 I/O,GTS1 (io), E1 I/O (io), E2 I/O (io), E3 I/O (io), E4 I/O (io), F2 I/O (io), F3 I/O (io), F4 I/O (io)
part C pins: K4 I/O (io), K5 I/O (io), K6 I/O (io), L1 I/O,GCK2 (io), L2 I/O (io), L3 I/O (io), L5 I/O (io), L6 I/O (io), M3 I/O (io), M4 I/O (io), M6 I/O (io), N2 I/O,GCK3 (io), N3 I/O (io), N4 I/O (io), N5 I/O (io)
part D pins: A3 I/O (io), A4 I/O (io), A5 I/O (io), A6 I/O (io), A7 I/O (io), B4 I/O (io), B5 I/O (io), B6 I/O (io), C4 I/O (io), C5 I/O (io), C6 I/O (io), C9 I/O (io), D5 I/O (io), D6 I/O (io), D7 I/O (io)
part E pins: K7 I/O (io), K8 I/O (io), K9 I/O (io), L8 I/O (io), L11 I/O (io), M7 I/O (io), M8 I/O (io), M10 I/O (io), M11 I/O (io), N6 I/O (io), N7 I/O (io), N8 I/O (io), N9 I/O (io), N11 I/O (io)
part F pins: A8 I/O (io), A9 I/O (io), A10 I/O (io), A11 I/O (io), A12 I/O (io), B7 I/O (io), B9 I/O (io), B10 I/O (io), B11 I/O (io), C11 I/O (io), D8 I/O (io), D9 I/O (io), D10 I/O (io)
part G pins: H10 I/O (io), H11 I/O (io), H12 I/O (io), H13 I/O (io), J10 I/O (io), J11 I/O (io), J12 I/O (io), K10 I/O (io), K11 I/O (io), K12 I/O (io), K13 I/O (io), L12 I/O (io), L13 I/O (io), M13 I/O (io), N12 I/O (io)
part H pins: B13 I/O (io), C12 I/O (io), C13 I/O (io), D11 I/O (io), D12 I/O (io), D13 I/O (io), E10 I/O (io), E12 I/O (io), E13 I/O (io), F10 I/O (io), F11 I/O (io), F12 I/O (io), F13 I/O (io), G10 I/O (io), G11 I/O (io)
part I pins: C8 TDO (out), L9 TDI (in), L10 TCK (in), N10 TMS (in)
part J pins: A1 VCCIO 2.5 V/3.3 V (power), A13 VCCIO 2.5 V/3.3 V (power), B3 VCCINT 3.3 V (power), C7 VCCIO 2.5 V/3.3 V (power), D1 VCCINT 3.3 V (power), J13 VCCINT 3.3 V (power), L4 VCCINT 3.3 V (power), L7 VCCIO 2.5 V/3.3 V (power), N1 VCCIO 2.5 V/3.3 V (power), N13 VCCIO 2.5 V/3.3 V (power)
part K pins: B2 GND (power), B8 GND (power), B12 GND (power), C10 GND (power), E11 GND (power), G1 GND (power), G12 GND (power), G13 GND (power), K1 GND (power), M2 GND (power), M5 GND (power), M9 GND (power), M12 GND (power)
part A text: BANK 1
part B text: BANK 2
part C text: BANK 3
part D text: BANK 4
part E text: BANK 5
part F text: BANK 6
part G text: BANK 7
part H text: BANK 8

## XC95144XL-7TQ100C
designator U?
FastFLASH XC900XL, 3.3V High-Performance 144 Macrocell CPLD, 81 User I/Os, 100-Pin TQFP, Speed Grade 7, Commercial Grade; Published: 17-Jul-2002; LatestRevisionDate: 18-Nov-2009; LatestRevisionNote: Updated to datasheet version 2.5 May-2009.; DatasheetVersion: ver2.0, Apr-2007; PackageVersion: ver1.2, Jun-2004; PackageReference: TQ100; Publisher: Altium Limited; PackageDescription: 100-Pin Thin Quad Flat Pack (TQ100); Supplier 1: Digi-Key; Supplier Part Number 1: 122-1252-ND; ComponentLink1Description: XC95144XL Datasheet; ComponentLink1URL: http://www.xilinx.com/support/documentation/data_sheets/ds056.pdf; ComponentLink2Description: TQ100 Package Drawing; ComponentLink2URL: http://www.xilinx.com/support/documentation/package_specs/tq100.pdf; ComponentLink3Description: XC9500XL Documents; ComponentLink3URL: http://www.xilinx.com/support/documentation/xc9500xl.htm; ComponentLink4Description: Xilinx.com Home; ComponentLink4URL: http://www.xilinx.com
footprint TQ100_N (Thin QFP, 100-Leads, Body 14x14mm, Pitch 0.5mm, IPC Medium Density)
footprint TQ100_L (Thin QFP, 100-Leads, Body 14x14mm, Pitch 0.5mm, IPC High Density)
footprint TQ100_M (Thin QFP, 100-Leads, Body 14x14mm, Pitch 0.5mm, IPC Low Density)
signal-integrity model XC95144XL_TQ100 (XC9500XL)
part A pins: 11 I/O (io), 12 I/O (io), 13 I/O (io), 14 I/O (io), 15 I/O (io), 16 I/O (io), 17 I/O (io), 18 I/O (io), 19 I/O (io), 20 I/O (io), 22 I/O,GCK1 (io)
part B pins: 1 I/O,GTS3 (io), 2 I/O,GTS4 (io), 3 I/O,GTS1 (io), 4 I/O,GTS2 (io), 6 I/O (io), 7 I/O (io), 8 I/O (io), 9 I/O (io), 10 I/O (io), 99 I/O,GSR (io)
part C pins: 23 I/O,GCK2 (io), 24 I/O (io), 25 I/O (io), 27 I/O,GCK3 (io), 28 I/O (io), 29 I/O (io), 30 I/O (io), 32 I/O (io), 33 I/O (io), 34 I/O (io)
part D pins: 87 I/O (io), 89 I/O (io), 90 I/O (io), 91 I/O (io), 92 I/O (io), 93 I/O (io), 94 I/O (io), 95 I/O (io), 96 I/O (io), 97 I/O (io)
part E pins: 35 I/O (io), 36 I/O (io), 37 I/O (io), 39 I/O (io), 40 I/O (io), 41 I/O (io), 42 I/O (io), 43 I/O (io), 46 I/O (io), 49 I/O (io)
part F pins: 74 I/O (io), 76 I/O (io), 77 I/O (io), 78 I/O (io), 79 I/O (io), 80 I/O (io), 81 I/O (io), 82 I/O (io), 85 I/O (io), 86 I/O (io)
part G pins: 50 I/O (io), 52 I/O (io), 53 I/O (io), 54 I/O (io), 55 I/O (io), 56 I/O (io), 58 I/O (io), 59 I/O (io), 60 I/O (io), 61 I/O (io)
part H pins: 63 I/O (io), 64 I/O (io), 65 I/O (io), 66 I/O (io), 67 I/O (io), 68 I/O (io), 70 I/O (io), 71 I/O (io), 72 I/O (io), 73 I/O (io)
part I pins: 45 TDI (in), 47 TMS (in), 48 TCK (in), 83 TDO (out)
part J pins: 5 VCCINT 3.3 V (power), 26 VCCIO 2.5 V/3.3 V (power), 38 VCCIO 2.5 V/3.3 V (power), 51 VCCIO 2.5 V/3.3 V (power), 57 VCCINT 3.3 V (power), 88 VCCIO 2.5 V/3.3 V (power), 98 VCCINT 3.3 V (power)
part K pins: 21 GND (power), 31 GND (power), 44 GND (power), 62 GND (power), 69 GND (power), 75 GND (power), 84 GND (power), 100 GND (power)
part A text: BANK 1
part B text: BANK 2
part C text: BANK 3
part D text: BANK 4
part E text: BANK 5
part F text: BANK 6
part G text: BANK 7
part H text: BANK 8

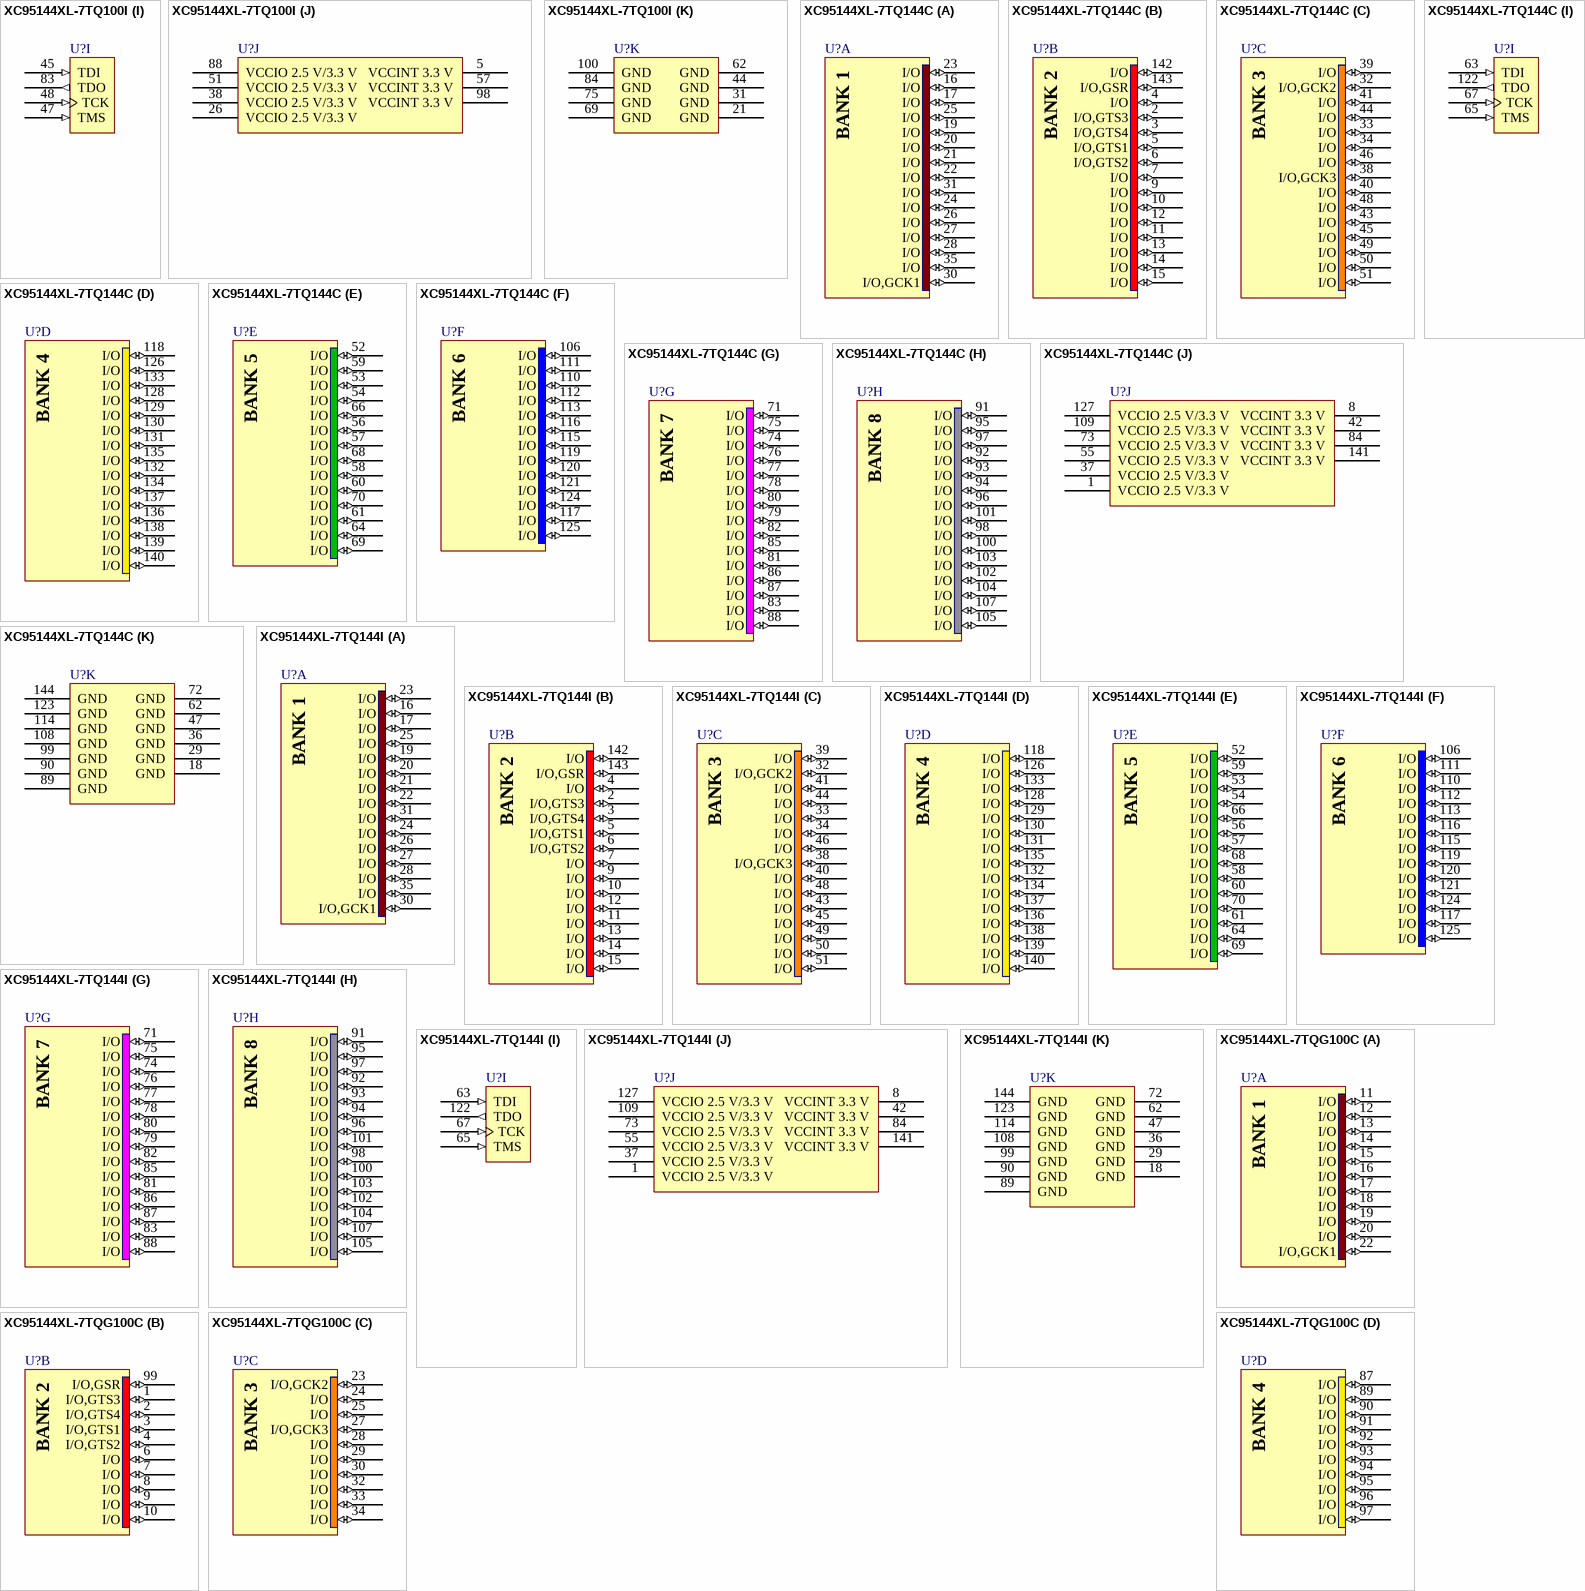
[diagram p23: symbols XC95144XL-7TQ100I to XC95144XL-7TQG100C]

## XC95144XL-7TQ100I
designator U?
FastFLASH XC900XL, 3.3V High-Performance 144 Macrocell CPLD, 81 User I/Os, 100-Pin TQFP, Speed Grade 7, Industrial Grade; Published: 17-Sep-2003; LatestRevisionDate: 18-Nov-2009; LatestRevisionNote: Updated to datasheet version 2.5 May-2009.; DatasheetVersion: ver2.0, Apr-2007; PackageVersion: ver1.2, Jun-2004; PackageReference: TQ100; Publisher: Altium Limited; PackageDescription: 100-Pin Thin Quad Flat Pack (TQ100); Supplier 1: Digi-Key; Supplier Part Number 1: XC95144XL-7TQ100I-ND; ComponentLink1Description: XC95144XL Datasheet; ComponentLink1URL: http://www.xilinx.com/support/documentation/data_sheets/ds056.pdf; ComponentLink2Description: TQ100 Package Drawing; ComponentLink2URL: http://www.xilinx.com/support/documentation/package_specs/tq100.pdf; ComponentLink3Description: XC9500XL Documents; ComponentLink3URL: http://www.xilinx.com/support/documentation/xc9500xl.htm; ComponentLink4Description: Xilinx.com Home; ComponentLink4URL: http://www.xilinx.com
footprint TQ100_N (Thin QFP, 100-Leads, Body 14x14mm, Pitch 0.5mm, IPC Medium Density)
footprint TQ100_L (Thin QFP, 100-Leads, Body 14x14mm, Pitch 0.5mm, IPC High Density)
footprint TQ100_M (Thin QFP, 100-Leads, Body 14x14mm, Pitch 0.5mm, IPC Low Density)
signal-integrity model XC95144XL_TQ100 (XC9500XL)
part A pins: 11 I/O (io), 12 I/O (io), 13 I/O (io), 14 I/O (io), 15 I/O (io), 16 I/O (io), 17 I/O (io), 18 I/O (io), 19 I/O (io), 20 I/O (io), 22 I/O,GCK1 (io)
part B pins: 1 I/O,GTS3 (io), 2 I/O,GTS4 (io), 3 I/O,GTS1 (io), 4 I/O,GTS2 (io), 6 I/O (io), 7 I/O (io), 8 I/O (io), 9 I/O (io), 10 I/O (io), 99 I/O,GSR (io)
part C pins: 23 I/O,GCK2 (io), 24 I/O (io), 25 I/O (io), 27 I/O,GCK3 (io), 28 I/O (io), 29 I/O (io), 30 I/O (io), 32 I/O (io), 33 I/O (io), 34 I/O (io)
part D pins: 87 I/O (io), 89 I/O (io), 90 I/O (io), 91 I/O (io), 92 I/O (io), 93 I/O (io), 94 I/O (io), 95 I/O (io), 96 I/O (io), 97 I/O (io)
part E pins: 35 I/O (io), 36 I/O (io), 37 I/O (io), 39 I/O (io), 40 I/O (io), 41 I/O (io), 42 I/O (io), 43 I/O (io), 46 I/O (io), 49 I/O (io)
part F pins: 74 I/O (io), 76 I/O (io), 77 I/O (io), 78 I/O (io), 79 I/O (io), 80 I/O (io), 81 I/O (io), 82 I/O (io), 85 I/O (io), 86 I/O (io)
part G pins: 50 I/O (io), 52 I/O (io), 53 I/O (io), 54 I/O (io), 55 I/O (io), 56 I/O (io), 58 I/O (io), 59 I/O (io), 60 I/O (io), 61 I/O (io)
part H pins: 63 I/O (io), 64 I/O (io), 65 I/O (io), 66 I/O (io), 67 I/O (io), 68 I/O (io), 70 I/O (io), 71 I/O (io), 72 I/O (io), 73 I/O (io)
part I pins: 45 TDI (in), 47 TMS (in), 48 TCK (in), 83 TDO (out)
part J pins: 5 VCCINT 3.3 V (power), 26 VCCIO 2.5 V/3.3 V (power), 38 VCCIO 2.5 V/3.3 V (power), 51 VCCIO 2.5 V/3.3 V (power), 57 VCCINT 3.3 V (power), 88 VCCIO 2.5 V/3.3 V (power), 98 VCCINT 3.3 V (power)
part K pins: 21 GND (power), 31 GND (power), 44 GND (power), 62 GND (power), 69 GND (power), 75 GND (power), 84 GND (power), 100 GND (power)
part A text: BANK 1
part B text: BANK 2
part C text: BANK 3
part D text: BANK 4
part E text: BANK 5
part F text: BANK 6
part G text: BANK 7
part H text: BANK 8

## XC95144XL-7TQ144C
designator U?
FastFLASH XC900XL, 3.3V High-Performance 144 Macrocell CPLD, 117 User I/Os, 144-Pin TQFP, Speed Grade 7, Commercial Grade; Published: 17-Jul-2002; LatestRevisionDate: 18-Nov-2009; LatestRevisionNote: Updated to datasheet version 2.5 May-2009.; DatasheetVersion: ver2.0, Apr-2007; PackageVersion: ver1.2, Jun-2004; PackageReference: TQ144; Publisher: Altium Limited; PackageDescription: 144-Pin Thin Quad Flat Pack (TQ144); Supplier 1: Digi-Key; Supplier Part Number 1: XC95144XL-7TQ144C-ND; Code_JEDEC: MS-026-BFB; ComponentLink1Description: XC95144XL Datasheet; ComponentLink1URL: http://www.xilinx.com/support/documentation/data_sheets/ds056.pdf; ComponentLink2Description: TQ144 Package Drawing; ComponentLink2URL: http://www.xilinx.com/support/documentation/package_specs/tq144.pdf; ComponentLink3Description: XC9500XL Documents; ComponentLink3URL: http://www.xilinx.com/support/documentation/xc9500xl.htm; ComponentLink4Description: Xilinx.com Home; ComponentLink4URL: http://www.xilinx.com
footprint TQ144_N (Thin QFP, 144-Leads, Body 20x20mm, Pitch 0.5mm, IPC Medium Density)
footprint TQ144_L (Thin QFP, 144-Leads, Body 20x20mm, Pitch 0.5mm, IPC High Density)
footprint TQ144_M (Thin QFP, 144-Leads, Body 20x20mm, Pitch 0.5mm, IPC Low Density)
signal-integrity model XC95144XL_TQ144 (XC9500XL)
part A pins: 16 I/O (io), 17 I/O (io), 19 I/O (io), 20 I/O (io), 21 I/O (io), 22 I/O (io), 23 I/O (io), 24 I/O (io), 25 I/O (io), 26 I/O (io), 27 I/O (io), 28 I/O (io), 30 I/O,GCK1 (io), 31 I/O (io), 35 I/O (io)
part B pins: 2 I/O,GTS3 (io), 3 I/O,GTS4 (io), 4 I/O (io), 5 I/O,GTS1 (io), 6 I/O,GTS2 (io), 7 I/O (io), 9 I/O (io), 10 I/O (io), 11 I/O (io), 12 I/O (io), 13 I/O (io), 14 I/O (io), 15 I/O (io), 142 I/O (io), 143 I/O,GSR (io)
part C pins: 32 I/O,GCK2 (io), 33 I/O (io), 34 I/O (io), 38 I/O,GCK3 (io), 39 I/O (io), 40 I/O (io), 41 I/O (io), 43 I/O (io), 44 I/O (io), 45 I/O (io), 46 I/O (io), 48 I/O (io), 49 I/O (io), 50 I/O (io), 51 I/O (io)
part D pins: 118 I/O (io), 126 I/O (io), 128 I/O (io), 129 I/O (io), 130 I/O (io), 131 I/O (io), 132 I/O (io), 133 I/O (io), 134 I/O (io), 135 I/O (io), 136 I/O (io), 137 I/O (io), 138 I/O (io), 139 I/O (io), 140 I/O (io)
part E pins: 52 I/O (io), 53 I/O (io), 54 I/O (io), 56 I/O (io), 57 I/O (io), 58 I/O (io), 59 I/O (io), 60 I/O (io), 61 I/O (io), 64 I/O (io), 66 I/O (io), 68 I/O (io), 69 I/O (io), 70 I/O (io)
part F pins: 106 I/O (io), 110 I/O (io), 111 I/O (io), 112 I/O (io), 113 I/O (io), 115 I/O (io), 116 I/O (io), 117 I/O (io), 119 I/O (io), 120 I/O (io), 121 I/O (io), 124 I/O (io), 125 I/O (io)
part G pins: 71 I/O (io), 74 I/O (io), 75 I/O (io), 76 I/O (io), 77 I/O (io), 78 I/O (io), 79 I/O (io), 80 I/O (io), 81 I/O (io), 82 I/O (io), 83 I/O (io), 85 I/O (io), 86 I/O (io), 87 I/O (io), 88 I/O (io)
part H pins: 91 I/O (io), 92 I/O (io), 93 I/O (io), 94 I/O (io), 95 I/O (io), 96 I/O (io), 97 I/O (io), 98 I/O (io), 100 I/O (io), 101 I/O (io), 102 I/O (io), 103 I/O (io), 104 I/O (io), 105 I/O (io), 107 I/O (io)
part I pins: 63 TDI (in), 65 TMS (in), 67 TCK (in), 122 TDO (out)
part J pins: 1 VCCIO 2.5 V/3.3 V (power), 8 VCCINT 3.3 V (power), 37 VCCIO 2.5 V/3.3 V (power), 42 VCCINT 3.3 V (power), 55 VCCIO 2.5 V/3.3 V (power), 73 VCCIO 2.5 V/3.3 V (power), 84 VCCINT 3.3 V (power), 109 VCCIO 2.5 V/3.3 V (power), 127 VCCIO 2.5 V/3.3 V (power), 141 VCCINT 3.3 V (power)
part K pins: 18 GND (power), 29 GND (power), 36 GND (power), 47 GND (power), 62 GND (power), 72 GND (power), 89 GND (power), 90 GND (power), 99 GND (power), 108 GND (power), 114 GND (power), 123 GND (power), 144 GND (power)
part A text: BANK 1
part B text: BANK 2
part C text: BANK 3
part D text: BANK 4
part E text: BANK 5
part F text: BANK 6
part G text: BANK 7
part H text: BANK 8

## XC95144XL-7TQ144I
designator U?
FastFLASH XC900XL, 3.3V High-Performance 144 Macrocell CPLD, 117 User I/Os, 144-Pin TQFP, Speed Grade 7, Industrial Grade; Published: 17-Sep-2003; LatestRevisionDate: 18-Nov-2009; LatestRevisionNote: Updated to datasheet version 2.5 May-2009.; DatasheetVersion: ver2.0, Apr-2007; PackageVersion: ver1.2, Jun-2004; PackageReference: TQ144; Publisher: Altium Limited; PackageDescription: 144-Pin Thin Quad Flat Pack (TQ144); Code_JEDEC: MS-026-BFB; ComponentLink1Description: XC95144XL Datasheet; ComponentLink1URL: http://www.xilinx.com/support/documentation/data_sheets/ds056.pdf; ComponentLink2Description: TQ144 Package Drawing; ComponentLink2URL: http://www.xilinx.com/support/documentation/package_specs/tq144.pdf; ComponentLink3Description: XC9500XL Documents; ComponentLink3URL: http://www.xilinx.com/support/documentation/xc9500xl.htm; ComponentLink4Description: Xilinx.com Home; ComponentLink4URL: http://www.xilinx.com
footprint TQ144_N (Thin QFP, 144-Leads, Body 20x20mm, Pitch 0.5mm, IPC Medium Density)
footprint TQ144_L (Thin QFP, 144-Leads, Body 20x20mm, Pitch 0.5mm, IPC High Density)
footprint TQ144_M (Thin QFP, 144-Leads, Body 20x20mm, Pitch 0.5mm, IPC Low Density)
signal-integrity model XC95144XL_TQ144 (XC9500XL)
part A pins: 16 I/O (io), 17 I/O (io), 19 I/O (io), 20 I/O (io), 21 I/O (io), 22 I/O (io), 23 I/O (io), 24 I/O (io), 25 I/O (io), 26 I/O (io), 27 I/O (io), 28 I/O (io), 30 I/O,GCK1 (io), 31 I/O (io), 35 I/O (io)
part B pins: 2 I/O,GTS3 (io), 3 I/O,GTS4 (io), 4 I/O (io), 5 I/O,GTS1 (io), 6 I/O,GTS2 (io), 7 I/O (io), 9 I/O (io), 10 I/O (io), 11 I/O (io), 12 I/O (io), 13 I/O (io), 14 I/O (io), 15 I/O (io), 142 I/O (io), 143 I/O,GSR (io)
part C pins: 32 I/O,GCK2 (io), 33 I/O (io), 34 I/O (io), 38 I/O,GCK3 (io), 39 I/O (io), 40 I/O (io), 41 I/O (io), 43 I/O (io), 44 I/O (io), 45 I/O (io), 46 I/O (io), 48 I/O (io), 49 I/O (io), 50 I/O (io), 51 I/O (io)
part D pins: 118 I/O (io), 126 I/O (io), 128 I/O (io), 129 I/O (io), 130 I/O (io), 131 I/O (io), 132 I/O (io), 133 I/O (io), 134 I/O (io), 135 I/O (io), 136 I/O (io), 137 I/O (io), 138 I/O (io), 139 I/O (io), 140 I/O (io)
part E pins: 52 I/O (io), 53 I/O (io), 54 I/O (io), 56 I/O (io), 57 I/O (io), 58 I/O (io), 59 I/O (io), 60 I/O (io), 61 I/O (io), 64 I/O (io), 66 I/O (io), 68 I/O (io), 69 I/O (io), 70 I/O (io)
part F pins: 106 I/O (io), 110 I/O (io), 111 I/O (io), 112 I/O (io), 113 I/O (io), 115 I/O (io), 116 I/O (io), 117 I/O (io), 119 I/O (io), 120 I/O (io), 121 I/O (io), 124 I/O (io), 125 I/O (io)
part G pins: 71 I/O (io), 74 I/O (io), 75 I/O (io), 76 I/O (io), 77 I/O (io), 78 I/O (io), 79 I/O (io), 80 I/O (io), 81 I/O (io), 82 I/O (io), 83 I/O (io), 85 I/O (io), 86 I/O (io), 87 I/O (io), 88 I/O (io)
part H pins: 91 I/O (io), 92 I/O (io), 93 I/O (io), 94 I/O (io), 95 I/O (io), 96 I/O (io), 97 I/O (io), 98 I/O (io), 100 I/O (io), 101 I/O (io), 102 I/O (io), 103 I/O (io), 104 I/O (io), 105 I/O (io), 107 I/O (io)
part I pins: 63 TDI (in), 65 TMS (in), 67 TCK (in), 122 TDO (out)
part J pins: 1 VCCIO 2.5 V/3.3 V (power), 8 VCCINT 3.3 V (power), 37 VCCIO 2.5 V/3.3 V (power), 42 VCCINT 3.3 V (power), 55 VCCIO 2.5 V/3.3 V (power), 73 VCCIO 2.5 V/3.3 V (power), 84 VCCINT 3.3 V (power), 109 VCCIO 2.5 V/3.3 V (power), 127 VCCIO 2.5 V/3.3 V (power), 141 VCCINT 3.3 V (power)
part K pins: 18 GND (power), 29 GND (power), 36 GND (power), 47 GND (power), 62 GND (power), 72 GND (power), 89 GND (power), 90 GND (power), 99 GND (power), 108 GND (power), 114 GND (power), 123 GND (power), 144 GND (power)
part A text: BANK 1
part B text: BANK 2
part C text: BANK 3
part D text: BANK 4
part E text: BANK 5
part F text: BANK 6
part G text: BANK 7
part H text: BANK 8

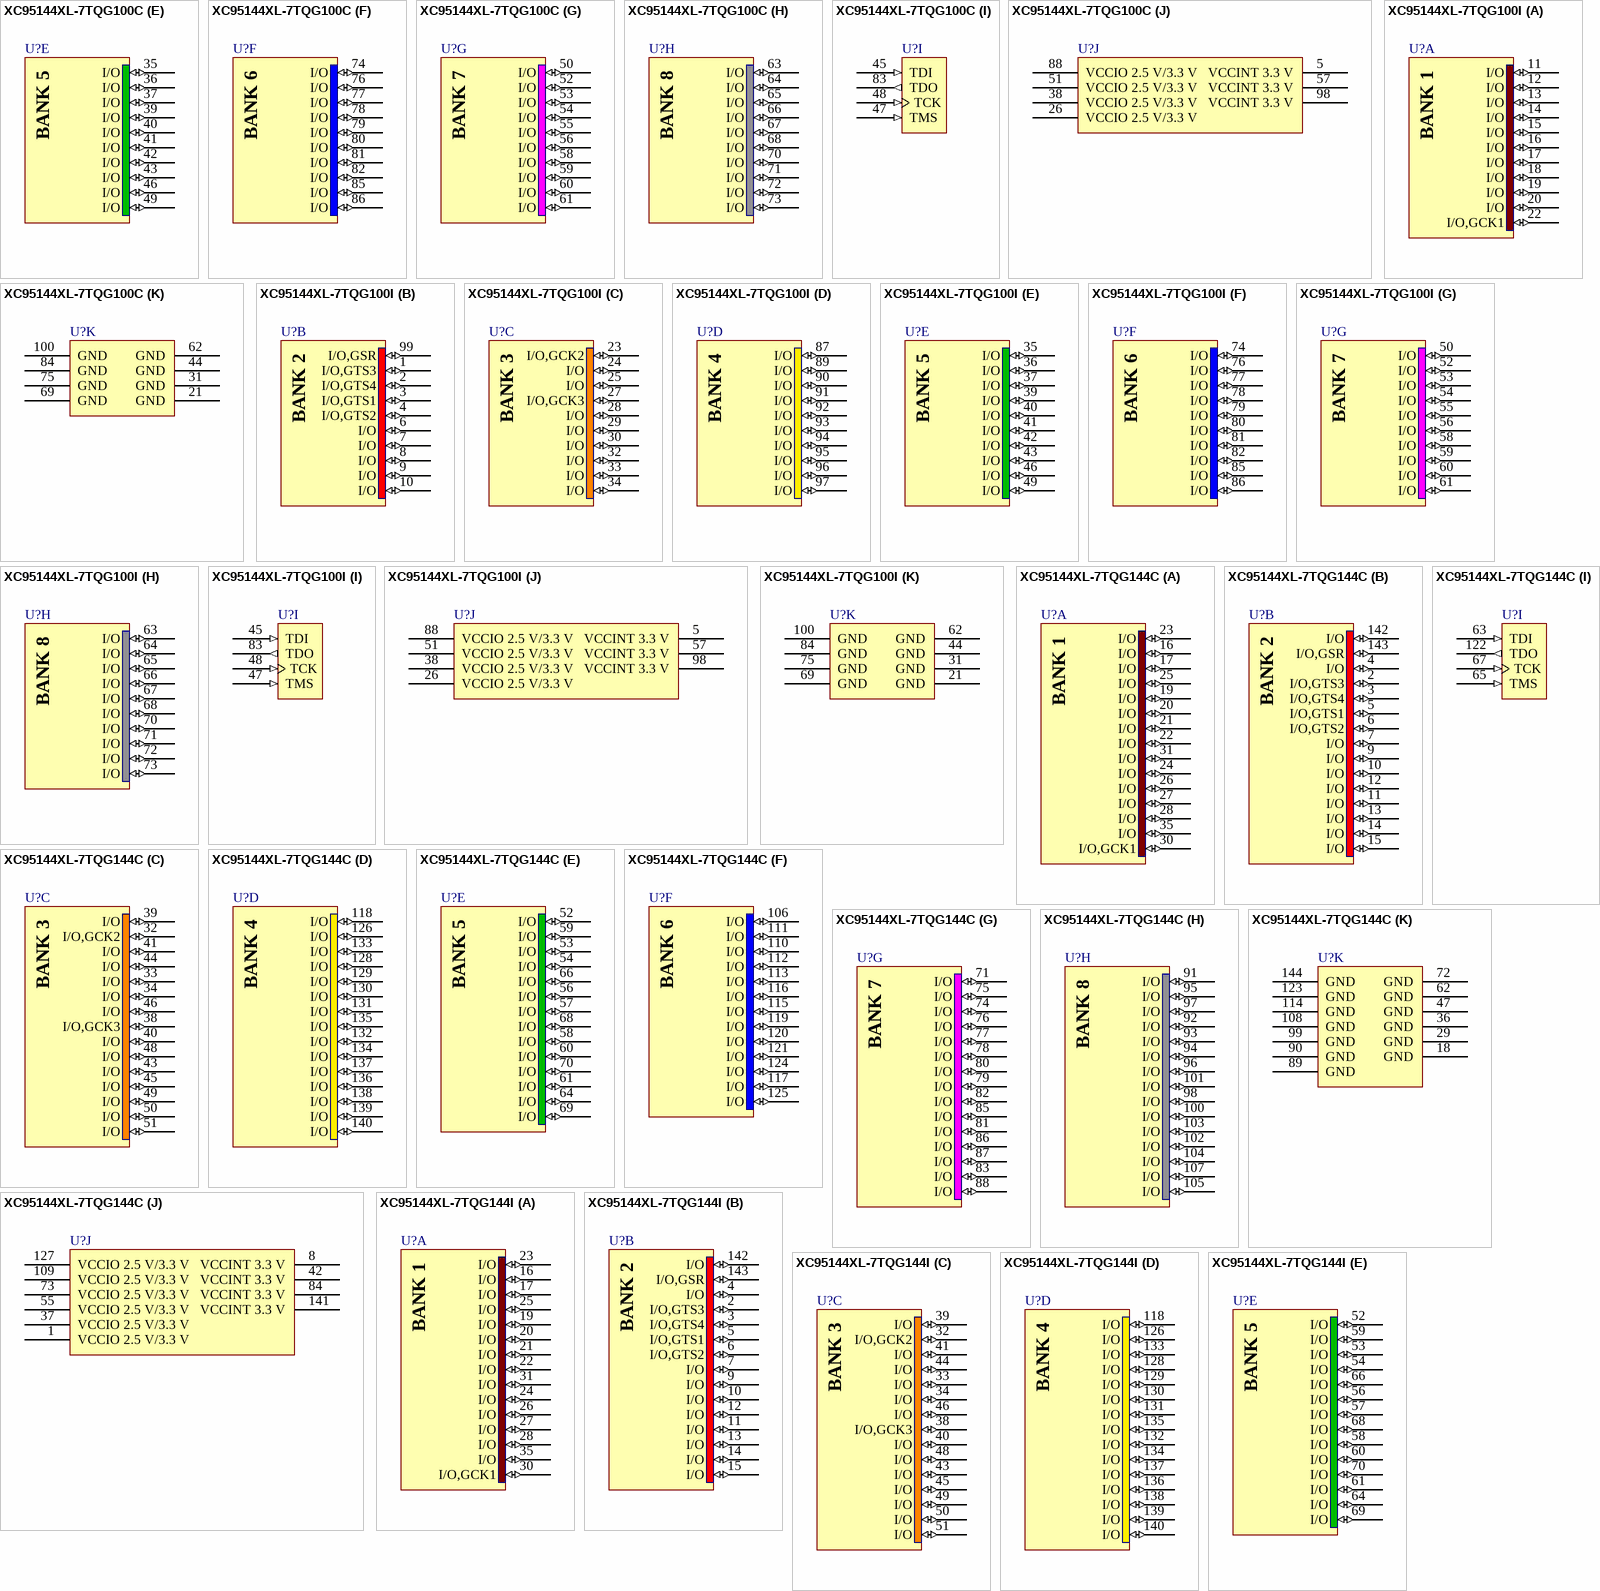
[diagram p24: symbols XC95144XL-7TQG100C to XC95144XL-7TQG144I]

## XC95144XL-7TQG100C
designator U?
FastFLASH XC900XL, 3.3V High-Performance 144 Macrocell CPLD, 81 User I/Os, 100-Pin TQFP, Speed Grade 7, Commercial Grade, Pb-Free; Published: 8-Sep-2006; LatestRevisionDate: 18-Nov-2009; LatestRevisionNote: Updated to datasheet version 2.5 May-2009.; DatasheetVersion: ver2.0, Apr-2007; PackageVersion: ver1.2, Jun-2004; PackageReference: TQG100; Publisher: Altium Limited; PackageDescription: 100-Pin Thin Quad Flat Pack (TQG100) - Pb-Free; Supplier 1: Digi-Key; Supplier Part Number 1: 122-1378-ND; ComponentLink1Description: XC95144XL Datasheet; ComponentLink1URL: http://www.xilinx.com/support/documentation/data_sheets/ds056.pdf; ComponentLink2Description: TQG100 Package Drawing; ComponentLink2URL: http://www.xilinx.com/support/documentation/package_specs/tq100.pdf; ComponentLink3Description: XC9500XL Documents; ComponentLink3URL: http://www.xilinx.com/support/documentation/xc9500xl.htm; ComponentLink4Description: Xilinx.com Home; ComponentLink4URL: http://www.xilinx.com
footprint TQG100_N (Thin QFP, 100-Leads, Body 14x14mm, Pitch 0.5mm, IPC Medium Density)
footprint TQG100_L (Thin QFP, 100-Leads, Body 14x14mm, Pitch 0.5mm, IPC High Density)
footprint TQG100_M (Thin QFP, 100-Leads, Body 14x14mm, Pitch 0.5mm, IPC Low Density)
signal-integrity model XC95144XL_TQ100 (XC9500XL)
part A pins: 11 I/O (io), 12 I/O (io), 13 I/O (io), 14 I/O (io), 15 I/O (io), 16 I/O (io), 17 I/O (io), 18 I/O (io), 19 I/O (io), 20 I/O (io), 22 I/O,GCK1 (io)
part B pins: 1 I/O,GTS3 (io), 2 I/O,GTS4 (io), 3 I/O,GTS1 (io), 4 I/O,GTS2 (io), 6 I/O (io), 7 I/O (io), 8 I/O (io), 9 I/O (io), 10 I/O (io), 99 I/O,GSR (io)
part C pins: 23 I/O,GCK2 (io), 24 I/O (io), 25 I/O (io), 27 I/O,GCK3 (io), 28 I/O (io), 29 I/O (io), 30 I/O (io), 32 I/O (io), 33 I/O (io), 34 I/O (io)
part D pins: 87 I/O (io), 89 I/O (io), 90 I/O (io), 91 I/O (io), 92 I/O (io), 93 I/O (io), 94 I/O (io), 95 I/O (io), 96 I/O (io), 97 I/O (io)
part E pins: 35 I/O (io), 36 I/O (io), 37 I/O (io), 39 I/O (io), 40 I/O (io), 41 I/O (io), 42 I/O (io), 43 I/O (io), 46 I/O (io), 49 I/O (io)
part F pins: 74 I/O (io), 76 I/O (io), 77 I/O (io), 78 I/O (io), 79 I/O (io), 80 I/O (io), 81 I/O (io), 82 I/O (io), 85 I/O (io), 86 I/O (io)
part G pins: 50 I/O (io), 52 I/O (io), 53 I/O (io), 54 I/O (io), 55 I/O (io), 56 I/O (io), 58 I/O (io), 59 I/O (io), 60 I/O (io), 61 I/O (io)
part H pins: 63 I/O (io), 64 I/O (io), 65 I/O (io), 66 I/O (io), 67 I/O (io), 68 I/O (io), 70 I/O (io), 71 I/O (io), 72 I/O (io), 73 I/O (io)
part I pins: 45 TDI (in), 47 TMS (in), 48 TCK (in), 83 TDO (out)
part J pins: 5 VCCINT 3.3 V (power), 26 VCCIO 2.5 V/3.3 V (power), 38 VCCIO 2.5 V/3.3 V (power), 51 VCCIO 2.5 V/3.3 V (power), 57 VCCINT 3.3 V (power), 88 VCCIO 2.5 V/3.3 V (power), 98 VCCINT 3.3 V (power)
part K pins: 21 GND (power), 31 GND (power), 44 GND (power), 62 GND (power), 69 GND (power), 75 GND (power), 84 GND (power), 100 GND (power)
part A text: BANK 1
part B text: BANK 2
part C text: BANK 3
part D text: BANK 4
part E text: BANK 5
part F text: BANK 6
part G text: BANK 7
part H text: BANK 8

## XC95144XL-7TQG100I
designator U?
FastFLASH XC900XL, 3.3V High-Performance 144 Macrocell CPLD, 81 User I/Os, 100-Pin TQFP, Speed Grade 7, Industrial Grade, Pb-Free; Published: 8-Sep-2006; LatestRevisionDate: 18-Nov-2009; LatestRevisionNote: Updated to datasheet version 2.5 May-2009.; DatasheetVersion: ver2.0, Apr-2007; PackageVersion: ver1.2, Jun-2004; PackageReference: TQG100; Publisher: Altium Limited; PackageDescription: 100-Pin Thin Quad Flat Pack (TQG100) - Pb-Free; Supplier 1: Digi-Key; Supplier Part Number 1: XC95144XL-7TQG100I-ND; ComponentLink1Description: XC95144XL Datasheet; ComponentLink1URL: http://www.xilinx.com/support/documentation/data_sheets/ds056.pdf; ComponentLink2Description: TQG100 Package Drawing; ComponentLink2URL: http://www.xilinx.com/support/documentation/package_specs/tq100.pdf; ComponentLink3Description: XC9500XL Documents; ComponentLink3URL: http://www.xilinx.com/support/documentation/xc9500xl.htm; ComponentLink4Description: Xilinx.com Home; ComponentLink4URL: http://www.xilinx.com
footprint TQG100_N (Thin QFP, 100-Leads, Body 14x14mm, Pitch 0.5mm, IPC Medium Density)
footprint TQG100_L (Thin QFP, 100-Leads, Body 14x14mm, Pitch 0.5mm, IPC High Density)
footprint TQG100_M (Thin QFP, 100-Leads, Body 14x14mm, Pitch 0.5mm, IPC Low Density)
signal-integrity model XC95144XL_TQ100 (XC9500XL)
part A pins: 11 I/O (io), 12 I/O (io), 13 I/O (io), 14 I/O (io), 15 I/O (io), 16 I/O (io), 17 I/O (io), 18 I/O (io), 19 I/O (io), 20 I/O (io), 22 I/O,GCK1 (io)
part B pins: 1 I/O,GTS3 (io), 2 I/O,GTS4 (io), 3 I/O,GTS1 (io), 4 I/O,GTS2 (io), 6 I/O (io), 7 I/O (io), 8 I/O (io), 9 I/O (io), 10 I/O (io), 99 I/O,GSR (io)
part C pins: 23 I/O,GCK2 (io), 24 I/O (io), 25 I/O (io), 27 I/O,GCK3 (io), 28 I/O (io), 29 I/O (io), 30 I/O (io), 32 I/O (io), 33 I/O (io), 34 I/O (io)
part D pins: 87 I/O (io), 89 I/O (io), 90 I/O (io), 91 I/O (io), 92 I/O (io), 93 I/O (io), 94 I/O (io), 95 I/O (io), 96 I/O (io), 97 I/O (io)
part E pins: 35 I/O (io), 36 I/O (io), 37 I/O (io), 39 I/O (io), 40 I/O (io), 41 I/O (io), 42 I/O (io), 43 I/O (io), 46 I/O (io), 49 I/O (io)
part F pins: 74 I/O (io), 76 I/O (io), 77 I/O (io), 78 I/O (io), 79 I/O (io), 80 I/O (io), 81 I/O (io), 82 I/O (io), 85 I/O (io), 86 I/O (io)
part G pins: 50 I/O (io), 52 I/O (io), 53 I/O (io), 54 I/O (io), 55 I/O (io), 56 I/O (io), 58 I/O (io), 59 I/O (io), 60 I/O (io), 61 I/O (io)
part H pins: 63 I/O (io), 64 I/O (io), 65 I/O (io), 66 I/O (io), 67 I/O (io), 68 I/O (io), 70 I/O (io), 71 I/O (io), 72 I/O (io), 73 I/O (io)
part I pins: 45 TDI (in), 47 TMS (in), 48 TCK (in), 83 TDO (out)
part J pins: 5 VCCINT 3.3 V (power), 26 VCCIO 2.5 V/3.3 V (power), 38 VCCIO 2.5 V/3.3 V (power), 51 VCCIO 2.5 V/3.3 V (power), 57 VCCINT 3.3 V (power), 88 VCCIO 2.5 V/3.3 V (power), 98 VCCINT 3.3 V (power)
part K pins: 21 GND (power), 31 GND (power), 44 GND (power), 62 GND (power), 69 GND (power), 75 GND (power), 84 GND (power), 100 GND (power)
part A text: BANK 1
part B text: BANK 2
part C text: BANK 3
part D text: BANK 4
part E text: BANK 5
part F text: BANK 6
part G text: BANK 7
part H text: BANK 8